# Altium schematic symbol library fpga_xilinx.SchLib: 19 symbols (part 1 of 5)
Pins are listed as number, name and electrical type; pins without a type are passive.

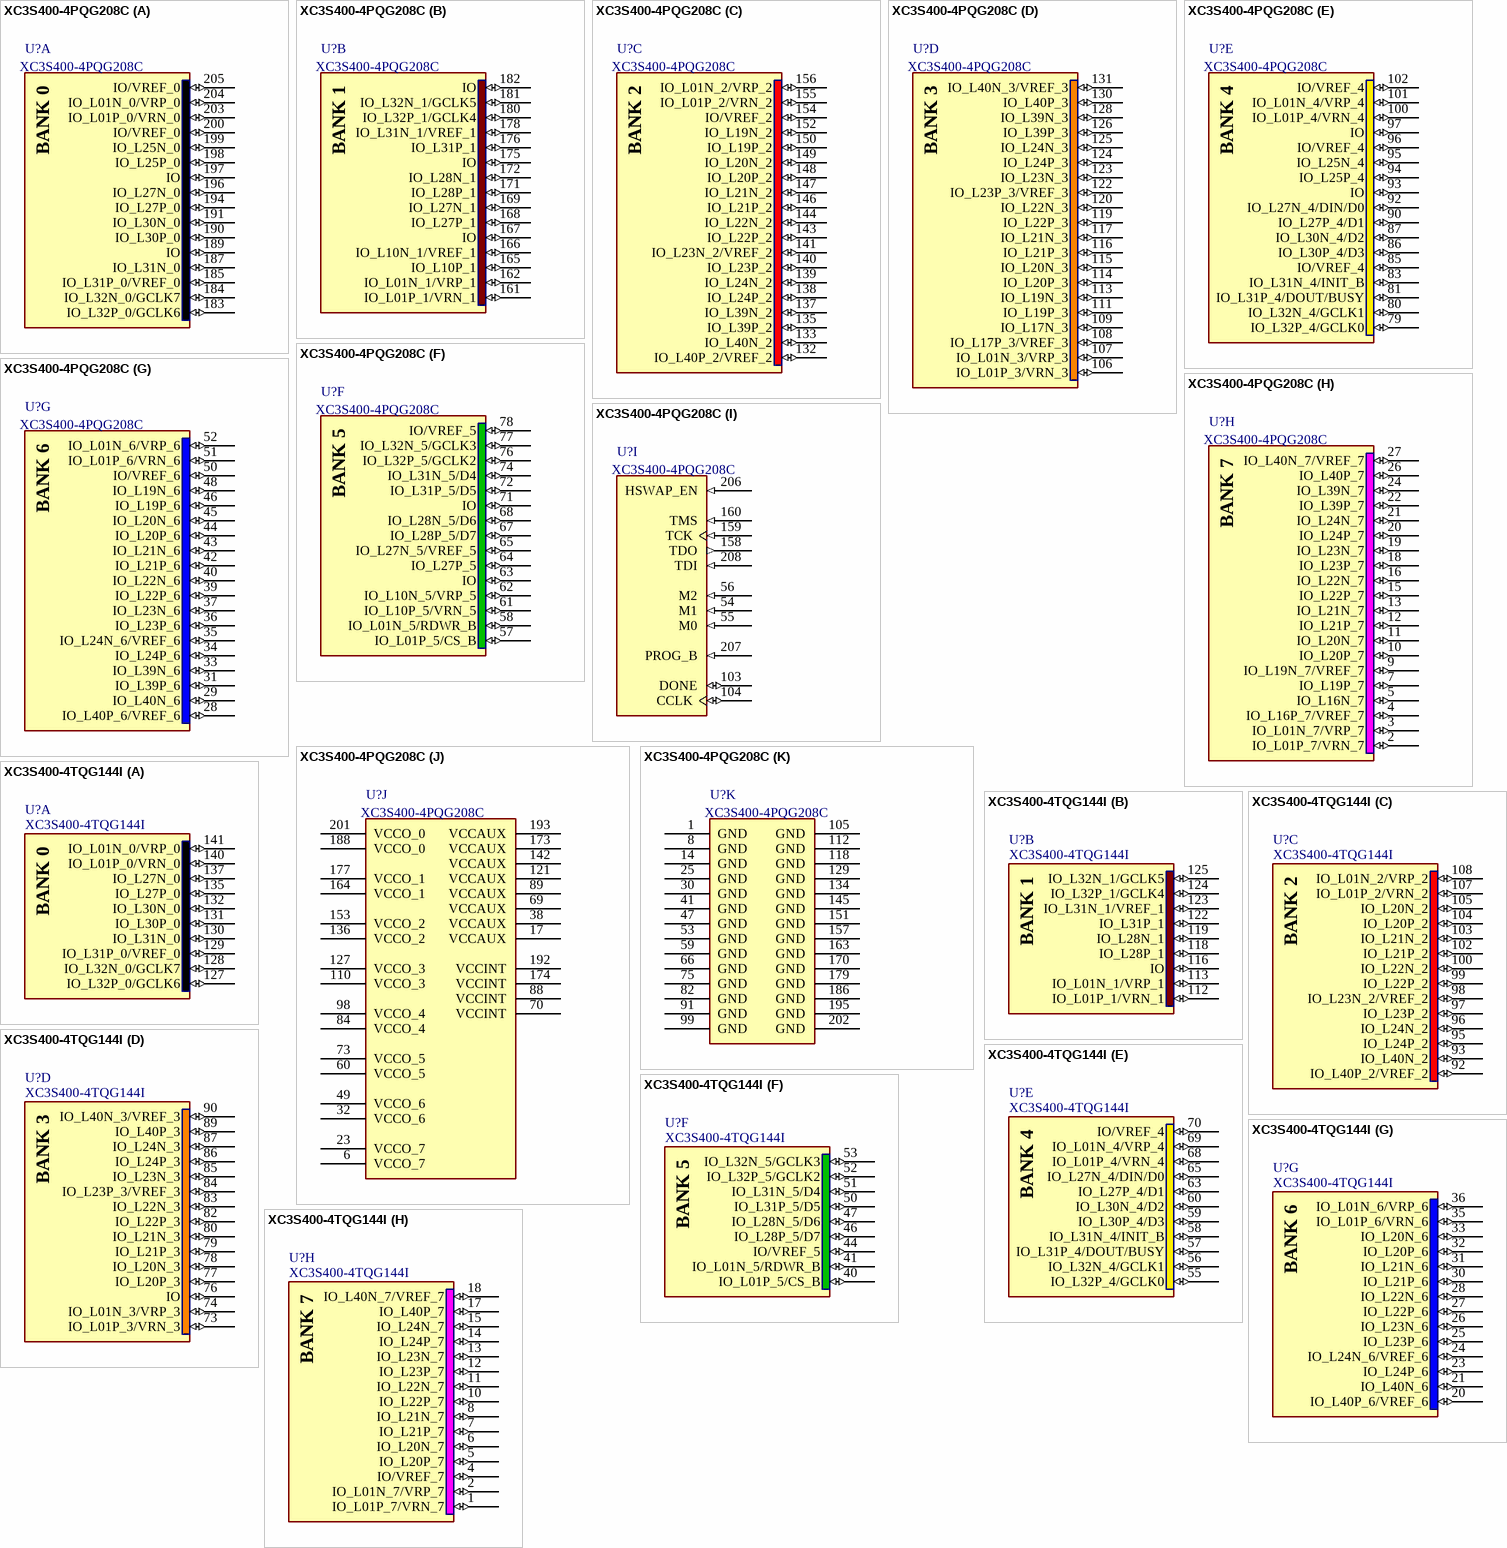
[diagram p0: symbols XC3S400-4PQG208C to XC3S400-4TQG144I]

## XC3S400-4PQG208C
designator U?
Spartan-3 1.2V FPGA, 141 User I/Os, 208-Pin PQFP, Standard Performance, Commercial Grade, Pb-Free; MANF: XILINX; MANF_P#: XC3S400-4PQG208CA; VALUE: XC3S400-4PQG208CA; ASSEMBLY: ASSEMBLY; PACKAGE: PQG208; MountType: SMT
footprint QFG50_208 (LQFP208, pqfp208 (Altera), N208 (Cypress), HQ208/MQ208/PQ208/PQG208 (Xilinx), MS-029FA1(JEDEC), SOT459-1, 28X28mm, Pitch: 0.5mm)
part A pins: 183 IO_L32P_0/GCLK6 (io), 184 IO_L32N_0/GCLK7 (io), 185 IO_L31P_0/VREF_0 (io), 187 IO_L31N_0 (io), 189 IO (io), 190 IO_L30P_0 (io), 191 IO_L30N_0 (io), 194 IO_L27P_0 (io), 196 IO_L27N_0 (io), 197 IO (io), 198 IO_L25P_0 (io), 199 IO_L25N_0 (io), 200 IO/VREF_0 (io), 203 IO_L01P_0/VRN_0 (io), 204 IO_L01N_0/VRP_0 (io), 205 IO/VREF_0 (io)
part B pins: 161 IO_L01P_1/VRN_1 (io), 162 IO_L01N_1/VRP_1 (io), 165 IO_L10P_1 (io), 166 IO_L10N_1/VREF_1 (io), 167 IO (io), 168 IO_L27P_1 (io), 169 IO_L27N_1 (io), 171 IO_L28P_1 (io), 172 IO_L28N_1 (io), 175 IO (io), 176 IO_L31P_1 (io), 178 IO_L31N_1/VREF_1 (io), 180 IO_L32P_1/GCLK4 (io), 181 IO_L32N_1/GCLK5 (io), 182 IO (io)
part C pins: 132 IO_L40P_2/VREF_2 (io), 133 IO_L40N_2 (io), 135 IO_L39P_2 (io), 137 IO_L39N_2 (io), 138 IO_L24P_2 (io), 139 IO_L24N_2 (io), 140 IO_L23P_2 (io), 141 IO_L23N_2/VREF_2 (io), 143 IO_L22P_2 (io), 144 IO_L22N_2 (io), 146 IO_L21P_2 (io), 147 IO_L21N_2 (io), 148 IO_L20P_2 (io), 149 IO_L20N_2 (io), 150 IO_L19P_2 (io), 152 IO_L19N_2 (io), 154 IO/VREF_2 (io), 155 IO_L01P_2/VRN_2 (io), 156 IO_L01N_2/VRP_2 (io)
part D pins: 106 IO_L01P_3/VRN_3 (io), 107 IO_L01N_3/VRP_3 (io), 108 IO_L17P_3/VREF_3 (io), 109 IO_L17N_3 (io), 111 IO_L19P_3 (io), 113 IO_L19N_3 (io), 114 IO_L20P_3 (io), 115 IO_L20N_3 (io), 116 IO_L21P_3 (io), 117 IO_L21N_3 (io), 119 IO_L22P_3 (io), 120 IO_L22N_3 (io), 122 IO_L23P_3/VREF_3 (io), 123 IO_L23N_3 (io), 124 IO_L24P_3 (io), 125 IO_L24N_3 (io), 126 IO_L39P_3 (io), 128 IO_L39N_3 (io), 130 IO_L40P_3 (io), 131 IO_L40N_3/VREF_3 (io)
part E pins: 79 IO_L32P_4/GCLK0 (io), 80 IO_L32N_4/GCLK1 (io), 81 IO_L31P_4/DOUT/BUSY (io), 83 IO_L31N_4/INIT_B (io), 85 IO/VREF_4 (io), 86 IO_L30P_4/D3 (io), 87 IO_L30N_4/D2 (io), 90 IO_L27P_4/D1 (io), 92 IO_L27N_4/DIN/D0 (io), 93 IO (io), 94 IO_L25P_4 (io), 95 IO_L25N_4 (io), 96 IO/VREF_4 (io), 97 IO (io), 100 IO_L01P_4/VRN_4 (io), 101 IO_L01N_4/VRP_4 (io), 102 IO/VREF_4 (io)
part F pins: 57 IO_L01P_5/CS_B (io), 58 IO_L01N_5/RDWR_B (io), 61 IO_L10P_5/VRN_5 (io), 62 IO_L10N_5/VRP_5 (io), 63 IO (io), 64 IO_L27P_5 (io), 65 IO_L27N_5/VREF_5 (io), 67 IO_L28P_5/D7 (io), 68 IO_L28N_5/D6 (io), 71 IO (io), 72 IO_L31P_5/D5 (io), 74 IO_L31N_5/D4 (io), 76 IO_L32P_5/GCLK2 (io), 77 IO_L32N_5/GCLK3 (io), 78 IO/VREF_5 (io)
part G pins: 28 IO_L40P_6/VREF_6 (io), 29 IO_L40N_6 (io), 31 IO_L39P_6 (io), 33 IO_L39N_6 (io), 34 IO_L24P_6 (io), 35 IO_L24N_6/VREF_6 (io), 36 IO_L23P_6 (io), 37 IO_L23N_6 (io), 39 IO_L22P_6 (io), 40 IO_L22N_6 (io), 42 IO_L21P_6 (io), 43 IO_L21N_6 (io), 44 IO_L20P_6 (io), 45 IO_L20N_6 (io), 46 IO_L19P_6 (io), 48 IO_L19N_6 (io), 50 IO/VREF_6 (io), 51 IO_L01P_6/VRN_6 (io), 52 IO_L01N_6/VRP_6 (io)
part H pins: 2 IO_L01P_7/VRN_7 (io), 3 IO_L01N_7/VRP_7 (io), 4 IO_L16P_7/VREF_7 (io), 5 IO_L16N_7 (io), 7 IO_L19P_7 (io), 9 IO_L19N_7/VREF_7 (io), 10 IO_L20P_7 (io), 11 IO_L20N_7 (io), 12 IO_L21P_7 (io), 13 IO_L21N_7 (io), 15 IO_L22P_7 (io), 16 IO_L22N_7 (io), 18 IO_L23P_7 (io), 19 IO_L23N_7 (io), 20 IO_L24P_7 (io), 21 IO_L24N_7 (io), 22 IO_L39P_7 (io), 24 IO_L39N_7 (io), 26 IO_L40P_7 (io), 27 IO_L40N_7/VREF_7 (io)
part I pins: 54 M1 (in), 55 M0 (in), 56 M2 (in), 103 DONE (io), 104 CCLK (io), 158 TDO (out), 159 TCK (in), 160 TMS (in), 206 HSWAP_EN (in), 207 PROG_B (in), 208 TDI (in)
part J pins: 6 VCCO_7 (power), 17 VCCAUX (power), 23 VCCO_7 (power), 32 VCCO_6 (power), 38 VCCAUX (power), 49 VCCO_6 (power), 60 VCCO_5 (power), 69 VCCAUX (power), 70 VCCINT (power), 73 VCCO_5 (power), 84 VCCO_4 (power), 88 VCCINT (power), 89 VCCAUX (power), 98 VCCO_4 (power), 110 VCCO_3 (power), 121 VCCAUX (power), 127 VCCO_3 (power), 136 VCCO_2 (power), 142 VCCAUX (power), 153 VCCO_2 (power), 164 VCCO_1 (power), 173 VCCAUX (power), 174 VCCINT (power), 177 VCCO_1 (power), 188 VCCO_0 (power), 192 VCCINT (power), 193 VCCAUX (power), 201 VCCO_0 (power)
part K pins: 1 GND (power), 8 GND (power), 14 GND (power), 25 GND (power), 30 GND (power), 41 GND (power), 47 GND (power), 53 GND (power), 59 GND (power), 66 GND (power), 75 GND (power), 82 GND (power), 91 GND (power), 99 GND (power), 105 GND (power), 112 GND (power), 118 GND (power), 129 GND (power), 134 GND (power), 145 GND (power), 151 GND (power), 157 GND (power), 163 GND (power), 170 GND (power), 179 GND (power), 186 GND (power), 195 GND (power), 202 GND (power)
part A text: BANK 0
part B text: BANK 1
part C text: BANK 2
part D text: BANK 3
part E text: BANK 4
part F text: BANK 5
part G text: BANK 6
part H text: BANK 7

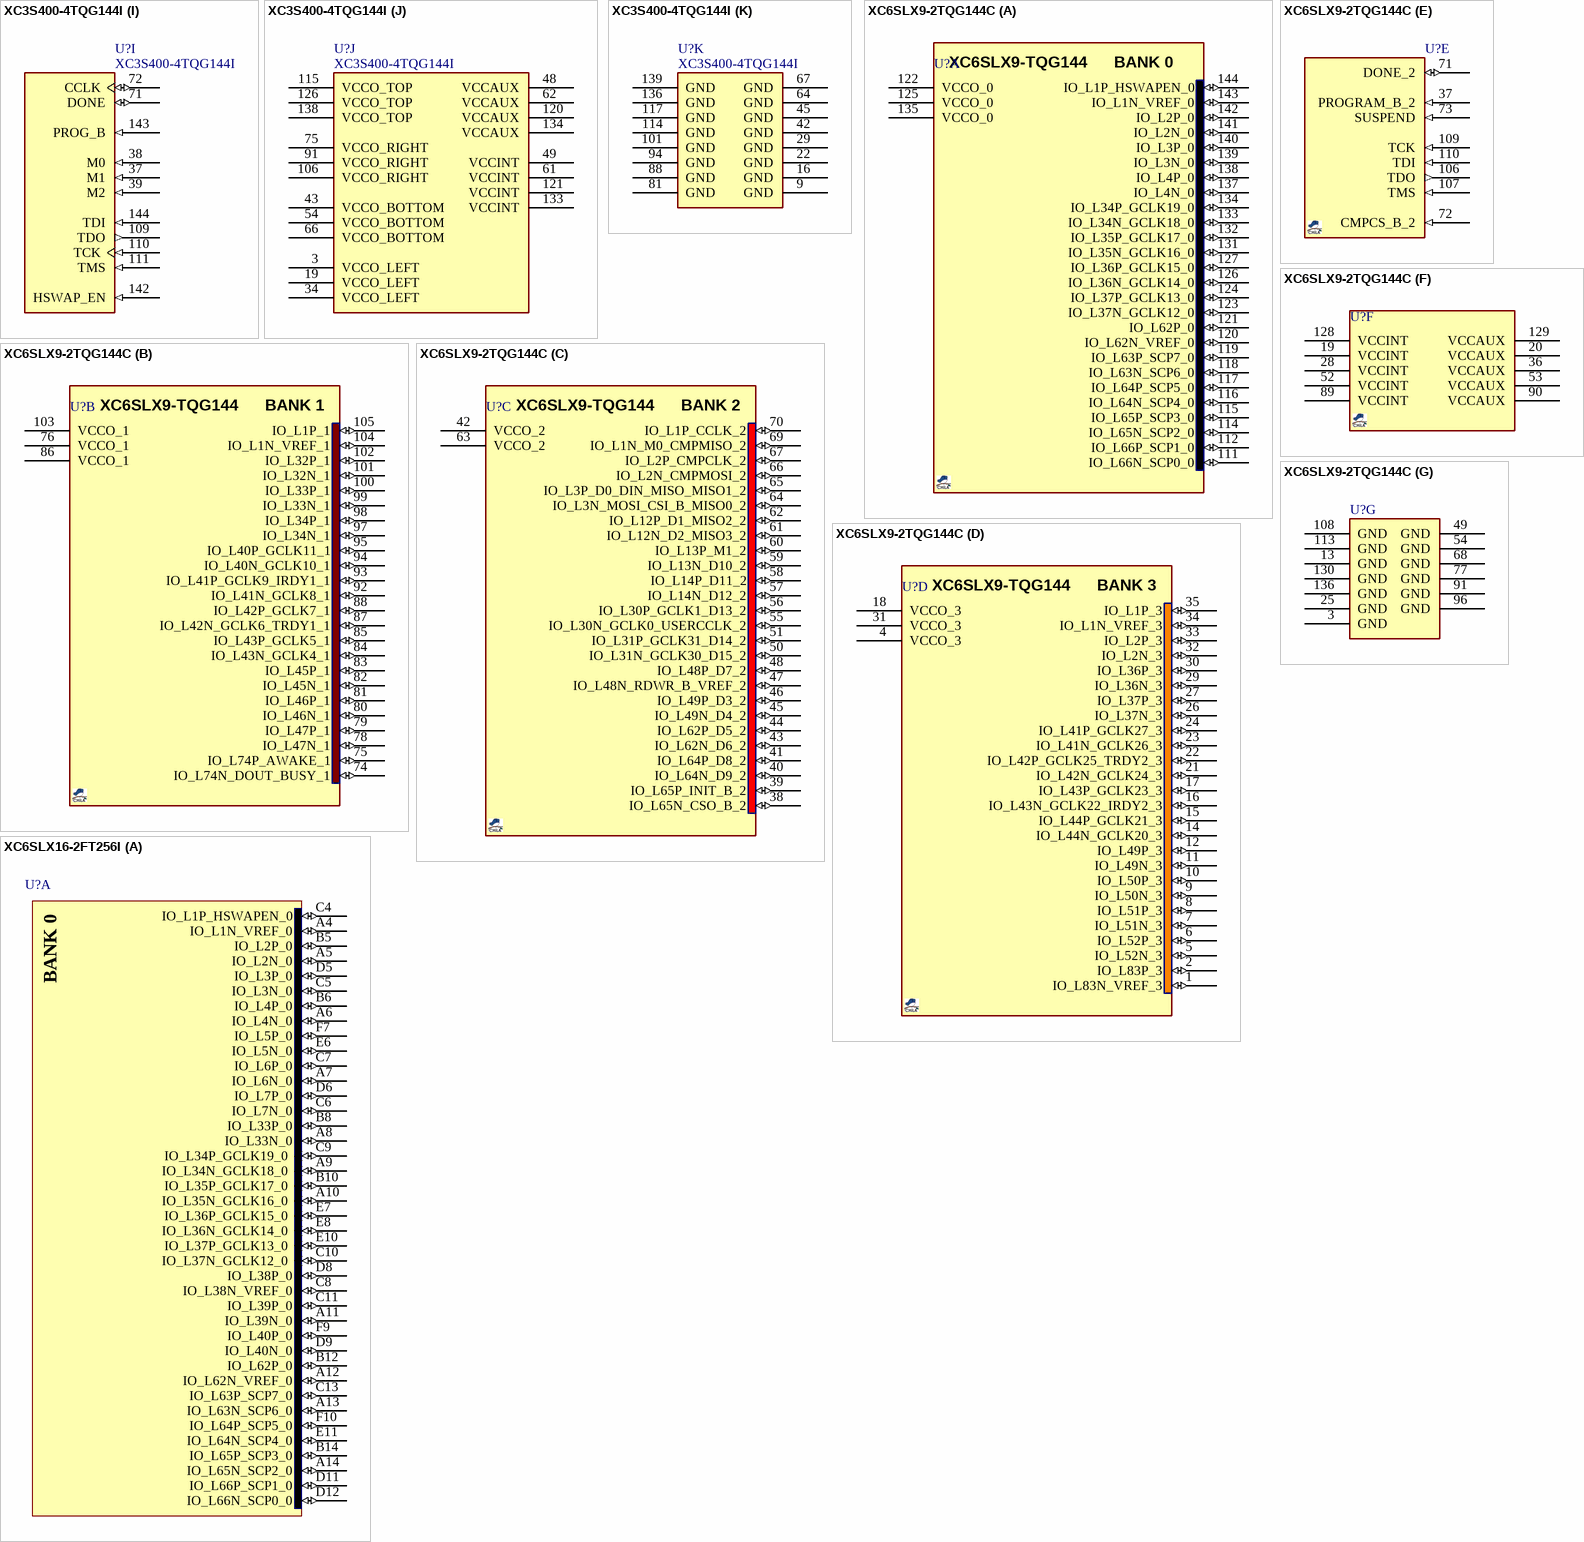
[diagram p1: symbols XC3S400-4TQG144I to XC6SLX16-2FT256I]

## XC3S400-4TQG144I
designator U?
Spartan-3 1.2V FPGA, 97 User I/Os, 144-pin TQFP, Standard Performance, Industrial Grade, Pb-Free; MANF: XILINX; MANF_P#: XC3S400-4TQG144IA; VALUE: XC3S400-4TQG144IA; ASSEMBLY: ASSEMBLY; PACKAGE: TQG144; MountType: SMT
footprint QFG50_144 (LQFP144, TQFP144, A144 (Cypress), HT144/TQ144 TQG144 (Xilinx), MS-026, MO-136(JEDEC), LQFP PGE, 20X20mm, Pitch 0.50mm, HT144, HTG144)
part A pins: 127 IO_L32P_0/GCLK6 (io), 128 IO_L32N_0/GCLK7 (io), 129 IO_L31P_0/VREF_0 (io), 130 IO_L31N_0 (io), 131 IO_L30P_0 (io), 132 IO_L30N_0 (io), 135 IO_L27P_0 (io), 137 IO_L27N_0 (io), 140 IO_L01P_0/VRN_0 (io), 141 IO_L01N_0/VRP_0 (io)
part B pins: 112 IO_L01P_1/VRN_1 (io), 113 IO_L01N_1/VRP_1 (io), 116 IO (io), 118 IO_L28P_1 (io), 119 IO_L28N_1 (io), 122 IO_L31P_1 (io), 123 IO_L31N_1/VREF_1 (io), 124 IO_L32P_1/GCLK4 (io), 125 IO_L32N_1/GCLK5 (io)
part C pins: 92 IO_L40P_2/VREF_2 (io), 93 IO_L40N_2 (io), 95 IO_L24P_2 (io), 96 IO_L24N_2 (io), 97 IO_L23P_2 (io), 98 IO_L23N_2/VREF_2 (io), 99 IO_L22P_2 (io), 100 IO_L22N_2 (io), 102 IO_L21P_2 (io), 103 IO_L21N_2 (io), 104 IO_L20P_2 (io), 105 IO_L20N_2 (io), 107 IO_L01P_2/VRN_2 (io), 108 IO_L01N_2/VRP_2 (io)
part D pins: 73 IO_L01P_3/VRN_3 (io), 74 IO_L01N_3/VRP_3 (io), 76 IO (io), 77 IO_L20P_3 (io), 78 IO_L20N_3 (io), 79 IO_L21P_3 (io), 80 IO_L21N_3 (io), 82 IO_L22P_3 (io), 83 IO_L22N_3 (io), 84 IO_L23P_3/VREF_3 (io), 85 IO_L23N_3 (io), 86 IO_L24P_3 (io), 87 IO_L24N_3 (io), 89 IO_L40P_3 (io), 90 IO_L40N_3/VREF_3 (io)
part E pins: 55 IO_L32P_4/GCLK0 (io), 56 IO_L32N_4/GCLK1 (io), 57 IO_L31P_4/DOUT/BUSY (io), 58 IO_L31N_4/INIT_B (io), 59 IO_L30P_4/D3 (io), 60 IO_L30N_4/D2 (io), 63 IO_L27P_4/D1 (io), 65 IO_L27N_4/DIN/D0 (io), 68 IO_L01P_4/VRN_4 (io), 69 IO_L01N_4/VRP_4 (io), 70 IO/VREF_4 (io)
part F pins: 40 IO_L01P_5/CS_B (io), 41 IO_L01N_5/RDWR_B (io), 44 IO/VREF_5 (io), 46 IO_L28P_5/D7 (io), 47 IO_L28N_5/D6 (io), 50 IO_L31P_5/D5 (io), 51 IO_L31N_5/D4 (io), 52 IO_L32P_5/GCLK2 (io), 53 IO_L32N_5/GCLK3 (io)
part G pins: 20 IO_L40P_6/VREF_6 (io), 21 IO_L40N_6 (io), 23 IO_L24P_6 (io), 24 IO_L24N_6/VREF_6 (io), 25 IO_L23P_6 (io), 26 IO_L23N_6 (io), 27 IO_L22P_6 (io), 28 IO_L22N_6 (io), 30 IO_L21P_6 (io), 31 IO_L21N_6 (io), 32 IO_L20P_6 (io), 33 IO_L20N_6 (io), 35 IO_L01P_6/VRN_6 (io), 36 IO_L01N_6/VRP_6 (io)
part H pins: 1 IO_L01P_7/VRN_7 (io), 2 IO_L01N_7/VRP_7 (io), 4 IO/VREF_7 (io), 5 IO_L20P_7 (io), 6 IO_L20N_7 (io), 7 IO_L21P_7 (io), 8 IO_L21N_7 (io), 10 IO_L22P_7 (io), 11 IO_L22N_7 (io), 12 IO_L23P_7 (io), 13 IO_L23N_7 (io), 14 IO_L24P_7 (io), 15 IO_L24N_7 (io), 17 IO_L40P_7 (io), 18 IO_L40N_7/VREF_7 (io)
part I pins: 37 M1 (in), 38 M0 (in), 39 M2 (in), 71 DONE (io), 72 CCLK (io), 109 TDO (out), 110 TCK (in), 111 TMS (in), 142 HSWAP_EN (in), 143 PROG_B (in), 144 TDI (in)
part J pins: 3 VCCO_LEFT (power), 19 VCCO_LEFT (power), 34 VCCO_LEFT (power), 43 VCCO_BOTTOM (power), 48 VCCAUX (power), 49 VCCINT (power), 54 VCCO_BOTTOM (power), 61 VCCINT (power), 62 VCCAUX (power), 66 VCCO_BOTTOM (power), 75 VCCO_RIGHT (power), 91 VCCO_RIGHT (power), 106 VCCO_RIGHT (power), 115 VCCO_TOP (power), 120 VCCAUX (power), 121 VCCINT (power), 126 VCCO_TOP (power), 133 VCCINT (power), 134 VCCAUX (power), 138 VCCO_TOP (power)
part K pins: 9 GND (power), 16 GND (power), 22 GND (power), 29 GND (power), 42 GND (power), 45 GND (power), 64 GND (power), 67 GND (power), 81 GND (power), 88 GND (power), 94 GND (power), 101 GND (power), 114 GND (power), 117 GND (power), 136 GND (power), 139 GND (power)
part A text: BANK 0
part B text: BANK 1
part C text: BANK 2
part D text: BANK 3
part E text: BANK 4
part F text: BANK 5
part G text: BANK 6
part H text: BANK 7

## XC6SLX9-2TQG144C
designator U?, comment XC6SLX9-2TQG144CA  (value not drawn)
Spartan-6 LX 1.2V FPGA, 102 User I/Os, 144-Pin TQFP (0.5mm Pitch), Speed Grade 2, Commercial Grade, Pb-Free; MANF: XILINX; ASSEMBLY: ASSEMBLY; MANF_P#: XC6SLX9-2TQG144CA; VALUE: XC6SLX9-2TQG144CA; PACKAGE: TQG144; MountType: SMT
signal-integrity model XC6SLX9_TQG144 (Spartan-6)
footprint QFG50_144 (LQFP144, TQFP144, A144 (Cypress), HT144/TQ144 TQG144 (Xilinx), MS-026, MO-136(JEDEC), LQFP PGE, 20X20mm, Pitch 0.50mm, HT144, HTG144)
part A pins: 111 IO_L66N_SCP0_0 (io), 112 IO_L66P_SCP1_0 (io), 114 IO_L65N_SCP2_0 (io), 115 IO_L65P_SCP3_0 (io), 116 IO_L64N_SCP4_0 (io), 117 IO_L64P_SCP5_0 (io), 118 IO_L63N_SCP6_0 (io), 119 IO_L63P_SCP7_0 (io), 120 IO_L62N_VREF_0 (io), 121 IO_L62P_0 (io), 122 VCCO_0 (power), 123 IO_L37N_GCLK12_0 (io), 124 IO_L37P_GCLK13_0 (io), 125 VCCO_0 (power), 126 IO_L36N_GCLK14_0 (io), 127 IO_L36P_GCLK15_0 (io), 131 IO_L35N_GCLK16_0 (io), 132 IO_L35P_GCLK17_0 (io), 133 IO_L34N_GCLK18_0 (io), 134 IO_L34P_GCLK19_0 (io), 135 VCCO_0 (power), 137 IO_L4N_0 (io), 138 IO_L4P_0 (io), 139 IO_L3N_0 (io), 140 IO_L3P_0 (io), 141 IO_L2N_0 (io), 142 IO_L2P_0 (io), 143 IO_L1N_VREF_0 (io), 144 IO_L1P_HSWAPEN_0 (io)
part B pins: 74 IO_L74N_DOUT_BUSY_1 (io), 75 IO_L74P_AWAKE_1 (io), 76 VCCO_1 (power), 78 IO_L47N_1 (io), 79 IO_L47P_1 (io), 80 IO_L46N_1 (io), 81 IO_L46P_1 (io), 82 IO_L45N_1 (io), 83 IO_L45P_1 (io), 84 IO_L43N_GCLK4_1 (io), 85 IO_L43P_GCLK5_1 (io), 86 VCCO_1 (power), 87 IO_L42N_GCLK6_TRDY1_1 (io), 88 IO_L42P_GCLK7_1 (io), 92 IO_L41N_GCLK8_1 (io), 93 IO_L41P_GCLK9_IRDY1_1 (io), 94 IO_L40N_GCLK10_1 (io), 95 IO_L40P_GCLK11_1 (io), 97 IO_L34N_1 (io), 98 IO_L34P_1 (io), 99 IO_L33N_1 (io), 100 IO_L33P_1 (io), 101 IO_L32N_1 (io), 102 IO_L32P_1 (io), 103 VCCO_1 (power), 104 IO_L1N_VREF_1 (io), 105 IO_L1P_1 (io)
part C pins: 38 IO_L65N_CSO_B_2 (io), 39 IO_L65P_INIT_B_2 (io), 40 IO_L64N_D9_2 (io), 41 IO_L64P_D8_2 (io), 42 VCCO_2 (power), 43 IO_L62N_D6_2 (io), 44 IO_L62P_D5_2 (io), 45 IO_L49N_D4_2 (io), 46 IO_L49P_D3_2 (io), 47 IO_L48N_RDWR_B_VREF_2 (io), 48 IO_L48P_D7_2 (io), 50 IO_L31N_GCLK30_D15_2 (io), 51 IO_L31P_GCLK31_D14_2 (io), 55 IO_L30N_GCLK0_USERCCLK_2 (io), 56 IO_L30P_GCLK1_D13_2 (io), 57 IO_L14N_D12_2 (io), 58 IO_L14P_D11_2 (io), 59 IO_L13N_D10_2 (io), 60 IO_L13P_M1_2 (io), 61 IO_L12N_D2_MISO3_2 (io), 62 IO_L12P_D1_MISO2_2 (io), 63 VCCO_2 (power), 64 IO_L3N_MOSI_CSI_B_MISO0_2 (io), 65 IO_L3P_D0_DIN_MISO_MISO1_2 (io), 66 IO_L2N_CMPMOSI_2 (io), 67 IO_L2P_CMPCLK_2 (io), 69 IO_L1N_M0_CMPMISO_2 (io), 70 IO_L1P_CCLK_2 (io)
part D pins: 1 IO_L83N_VREF_3 (io), 2 IO_L83P_3 (io), 4 VCCO_3 (power), 5 IO_L52N_3 (io), 6 IO_L52P_3 (io), 7 IO_L51N_3 (io), 8 IO_L51P_3 (io), 9 IO_L50N_3 (io), 10 IO_L50P_3 (io), 11 IO_L49N_3 (io), 12 IO_L49P_3 (io), 14 IO_L44N_GCLK20_3 (io), 15 IO_L44P_GCLK21_3 (io), 16 IO_L43N_GCLK22_IRDY2_3 (io), 17 IO_L43P_GCLK23_3 (io), 18 VCCO_3 (power), 21 IO_L42N_GCLK24_3 (io), 22 IO_L42P_GCLK25_TRDY2_3 (io), 23 IO_L41N_GCLK26_3 (io), 24 IO_L41P_GCLK27_3 (io), 26 IO_L37N_3 (io), 27 IO_L37P_3 (io), 29 IO_L36N_3 (io), 30 IO_L36P_3 (io), 31 VCCO_3 (power), 32 IO_L2N_3 (io), 33 IO_L2P_3 (io), 34 IO_L1N_VREF_3 (io), 35 IO_L1P_3 (io)
part E pins: 37 PROGRAM_B_2 (in), 71 DONE_2 (io), 72 CMPCS_B_2 (in), 73 SUSPEND (in), 106 TDO (out), 107 TMS (in), 109 TCK (in), 110 TDI (in)
part F pins: 19 VCCINT (power), 20 VCCAUX (power), 28 VCCINT (power), 36 VCCAUX (power), 52 VCCINT (power), 53 VCCAUX (power), 89 VCCINT (power), 90 VCCAUX (power), 128 VCCINT (power), 129 VCCAUX (power)
part G pins: 3 GND (power), 13 GND (power), 25 GND (power), 49 GND (power), 54 GND (power), 68 GND (power), 77 GND (power), 91 GND (power), 96 GND (power), 108 GND (power), 113 GND (power), 130 GND (power), 136 GND (power)
part A text: XC6SLX9-TQG144; BANK 0
part B text: XC6SLX9-TQG144; BANK 1
part C text: XC6SLX9-TQG144; BANK 2
part D text: XC6SLX9-TQG144; BANK 3

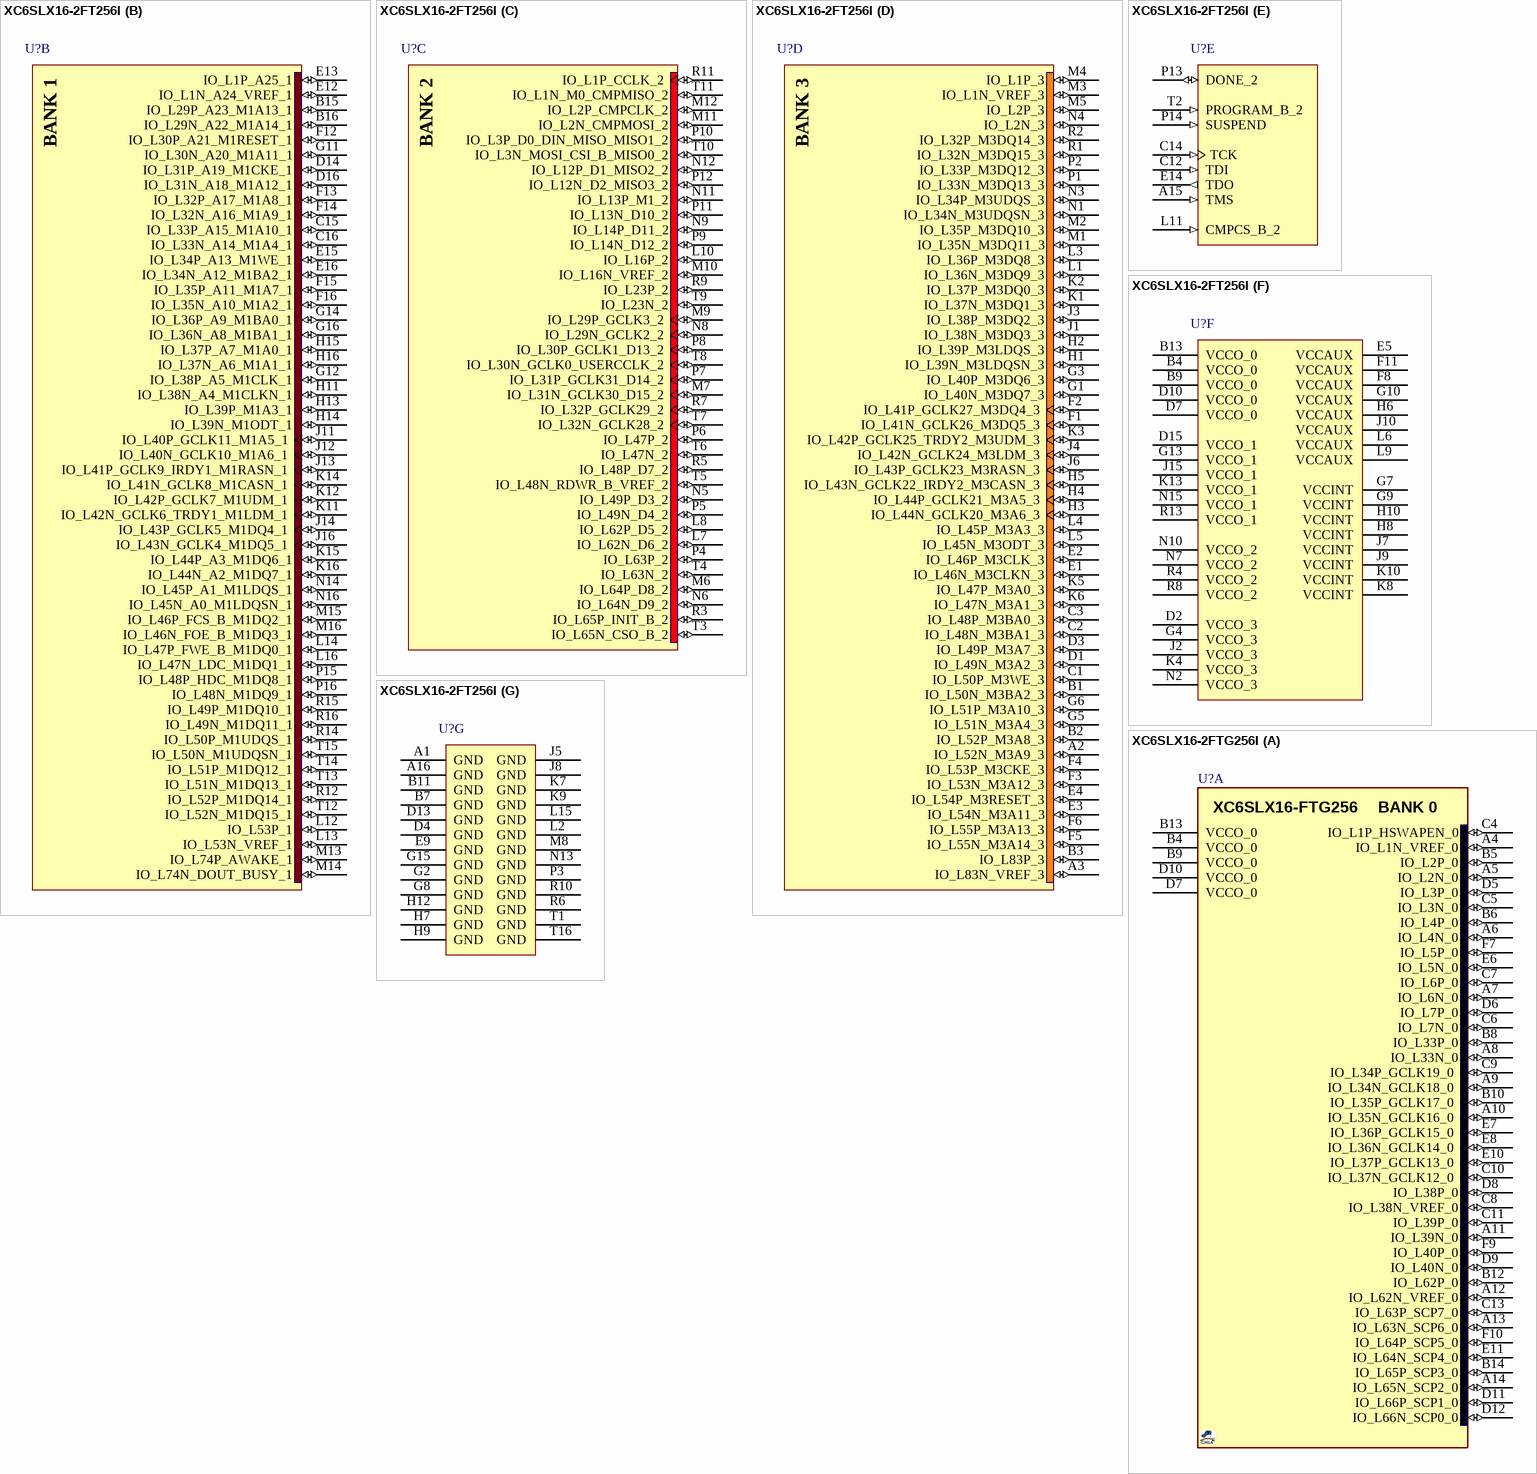
[diagram p2: symbols XC6SLX16-2FT256I to XC6SLX16-2FTG256I]

## XC6SLX16-2FT256I
designator U?
Spartan-6 LX 1.2V FPGA, 186 User I/Os, 256-Ball Fine-Pitch Thin BGA (1.0mm Pitch), Speed Grade 2, Industrial Grade; MANF: Xilinx; MANF_P#: XC6SLX16-2FT256IA; VALUE: XC6SLX16-2FT256IA; ASSEMBLY: ASSEMBLY; PACKAGE: FTG256; MountType: SMT
footprint FT256 (BGA, 256-Leads, Body 17x17mm, Pitch 1mm)
part A pins: A4 IO_L1N_VREF_0 (io), A5 IO_L2N_0 (io), A6 IO_L4N_0 (io), A7 IO_L6N_0 (io), A8 IO_L33N_0 (io), A9 IO_L34N_GCLK18_0 (io), A10 IO_L35N_GCLK16_0 (io), A11 IO_L39N_0 (io), A12 IO_L62N_VREF_0 (io), A13 IO_L63N_SCP6_0 (io), A14 IO_L65N_SCP2_0 (io), B5 IO_L2P_0 (io), B6 IO_L4P_0 (io), B8 IO_L33P_0 (io), B10 IO_L35P_GCLK17_0 (io), B12 IO_L62P_0 (io), B14 IO_L65P_SCP3_0 (io), C4 IO_L1P_HSWAPEN_0 (io), C5 IO_L3N_0 (io), C6 IO_L7N_0 (io), C7 IO_L6P_0 (io), C8 IO_L38N_VREF_0 (io), C9 IO_L34P_GCLK19_0 (io), C10 IO_L37N_GCLK12_0 (io), C11 IO_L39P_0 (io), C13 IO_L63P_SCP7_0 (io), D5 IO_L3P_0 (io), D6 IO_L7P_0 (io), D8 IO_L38P_0 (io), D9 IO_L40N_0 (io), D11 IO_L66P_SCP1_0 (io), D12 IO_L66N_SCP0_0 (io), E6 IO_L5N_0 (io), E7 IO_L36P_GCLK15_0 (io), E8 IO_L36N_GCLK14_0 (io), E10 IO_L37P_GCLK13_0 (io), E11 IO_L64N_SCP4_0 (io), F7 IO_L5P_0 (io), F9 IO_L40P_0 (io), F10 IO_L64P_SCP5_0 (io)
part B pins: B15 IO_L29P_A23_M1A13_1 (io), B16 IO_L29N_A22_M1A14_1 (io), C15 IO_L33P_A15_M1A10_1 (io), C16 IO_L33N_A14_M1A4_1 (io), D14 IO_L31P_A19_M1CKE_1 (io), D16 IO_L31N_A18_M1A12_1 (io), E12 IO_L1N_A24_VREF_1 (io), E13 IO_L1P_A25_1 (io), E15 IO_L34P_A13_M1WE_1 (io), E16 IO_L34N_A12_M1BA2_1 (io), F12 IO_L30P_A21_M1RESET_1 (io), F13 IO_L32P_A17_M1A8_1 (io), F14 IO_L32N_A16_M1A9_1 (io), F15 IO_L35P_A11_M1A7_1 (io), F16 IO_L35N_A10_M1A2_1 (io), G11 IO_L30N_A20_M1A11_1 (io), G12 IO_L38P_A5_M1CLK_1 (io), G14 IO_L36P_A9_M1BA0_1 (io), G16 IO_L36N_A8_M1BA1_1 (io), H11 IO_L38N_A4_M1CLKN_1 (io), H13 IO_L39P_M1A3_1 (io), H14 IO_L39N_M1ODT_1 (io), H15 IO_L37P_A7_M1A0_1 (io), H16 IO_L37N_A6_M1A1_1 (io), J11 IO_L40P_GCLK11_M1A5_1 (io), J12 IO_L40N_GCLK10_M1A6_1 (io), J13 IO_L41P_GCLK9_IRDY1_M1RASN_1 (io), J14 IO_L43P_GCLK5_M1DQ4_1 (io), J16 IO_L43N_GCLK4_M1DQ5_1 (io), K11 IO_L42N_GCLK6_TRDY1_M1LDM_1 (io), K12 IO_L42P_GCLK7_M1UDM_1 (io), K14 IO_L41N_GCLK8_M1CASN_1 (io), K15 IO_L44P_A3_M1DQ6_1 (io), K16 IO_L44N_A2_M1DQ7_1 (io), L12 IO_L53P_1 (io), L13 IO_L53N_VREF_1 (io), L14 IO_L47P_FWE_B_M1DQ0_1 (io), L16 IO_L47N_LDC_M1DQ1_1 (io), M13 IO_L74P_AWAKE_1 (io), M14 IO_L74N_DOUT_BUSY_1 (io), M15 IO_L46P_FCS_B_M1DQ2_1 (io), M16 IO_L46N_FOE_B_M1DQ3_1 (io), N14 IO_L45P_A1_M1LDQS_1 (io), N16 IO_L45N_A0_M1LDQSN_1 (io), P15 IO_L48P_HDC_M1DQ8_1 (io), P16 IO_L48N_M1DQ9_1 (io), R12 IO_L52P_M1DQ14_1 (io), R14 IO_L50P_M1UDQS_1 (io), R15 IO_L49P_M1DQ10_1 (io), R16 IO_L49N_M1DQ11_1 (io), T12 IO_L52N_M1DQ15_1 (io), T13 IO_L51N_M1DQ13_1 (io), T14 IO_L51P_M1DQ12_1 (io), T15 IO_L50N_M1UDQSN_1 (io)
part C pins: L7 IO_L62N_D6_2 (io), L8 IO_L62P_D5_2 (io), L10 IO_L16P_2 (io), M6 IO_L64P_D8_2 (io), M7 IO_L31N_GCLK30_D15_2 (io), M9 IO_L29P_GCLK3_2 (io), M10 IO_L16N_VREF_2 (io), M11 IO_L2N_CMPMOSI_2 (io), M12 IO_L2P_CMPCLK_2 (io), N5 IO_L49P_D3_2 (io), N6 IO_L64N_D9_2 (io), N8 IO_L29N_GCLK2_2 (io), N9 IO_L14P_D11_2 (io), N11 IO_L13P_M1_2 (io), N12 IO_L12P_D1_MISO2_2 (io), P4 IO_L63P_2 (io), P5 IO_L49N_D4_2 (io), P6 IO_L47P_2 (io), P7 IO_L31P_GCLK31_D14_2 (io), P8 IO_L30P_GCLK1_D13_2 (io), P9 IO_L14N_D12_2 (io), P10 IO_L3P_D0_DIN_MISO_MISO1_2 (io), P11 IO_L13N_D10_2 (io), P12 IO_L12N_D2_MISO3_2 (io), R3 IO_L65P_INIT_B_2 (io), R5 IO_L48P_D7_2 (io), R7 IO_L32P_GCLK29_2 (io), R9 IO_L23P_2 (io), R11 IO_L1P_CCLK_2 (io), T3 IO_L65N_CSO_B_2 (io), T4 IO_L63N_2 (io), T5 IO_L48N_RDWR_B_VREF_2 (io), T6 IO_L47N_2 (io), T7 IO_L32N_GCLK28_2 (io), T8 IO_L30N_GCLK0_USERCCLK_2 (io), T9 IO_L23N_2 (io), T10 IO_L3N_MOSI_CSI_B_MISO0_2 (io), T11 IO_L1N_M0_CMPMISO_2 (io)
part D pins: A2 IO_L52N_M3A9_3 (io), A3 IO_L83N_VREF_3 (io), B1 IO_L50N_M3BA2_3 (io), B2 IO_L52P_M3A8_3 (io), B3 IO_L83P_3 (io), C1 IO_L50P_M3WE_3 (io), C2 IO_L48N_M3BA1_3 (io), C3 IO_L48P_M3BA0_3 (io), D1 IO_L49N_M3A2_3 (io), D3 IO_L49P_M3A7_3 (io), E1 IO_L46N_M3CLKN_3 (io), E2 IO_L46P_M3CLK_3 (io), E3 IO_L54N_M3A11_3 (io), E4 IO_L54P_M3RESET_3 (io), F1 IO_L41N_GCLK26_M3DQ5_3 (io), F2 IO_L41P_GCLK27_M3DQ4_3 (io), F3 IO_L53N_M3A12_3 (io), F4 IO_L53P_M3CKE_3 (io), F5 IO_L55N_M3A14_3 (io), F6 IO_L55P_M3A13_3 (io), G1 IO_L40N_M3DQ7_3 (io), G3 IO_L40P_M3DQ6_3 (io), G5 IO_L51N_M3A4_3 (io), G6 IO_L51P_M3A10_3 (io), H1 IO_L39N_M3LDQSN_3 (io), H2 IO_L39P_M3LDQS_3 (io), H3 IO_L44N_GCLK20_M3A6_3 (io), H4 IO_L44P_GCLK21_M3A5_3 (io), H5 IO_L43N_GCLK22_IRDY2_M3CASN_3 (io), J1 IO_L38N_M3DQ3_3 (io), J3 IO_L38P_M3DQ2_3 (io), J4 IO_L42N_GCLK24_M3LDM_3 (io), J6 IO_L43P_GCLK23_M3RASN_3 (io), K1 IO_L37N_M3DQ1_3 (io), K2 IO_L37P_M3DQ0_3 (io), K3 IO_L42P_GCLK25_TRDY2_M3UDM_3 (io), K5 IO_L47P_M3A0_3 (io), K6 IO_L47N_M3A1_3 (io), L1 IO_L36N_M3DQ9_3 (io), L3 IO_L36P_M3DQ8_3 (io), L4 IO_L45P_M3A3_3 (io), L5 IO_L45N_M3ODT_3 (io), M1 IO_L35N_M3DQ11_3 (io), M2 IO_L35P_M3DQ10_3 (io), M3 IO_L1N_VREF_3 (io), M4 IO_L1P_3 (io), M5 IO_L2P_3 (io), N1 IO_L34N_M3UDQSN_3 (io), N3 IO_L34P_M3UDQS_3 (io), N4 IO_L2N_3 (io), P1 IO_L33N_M3DQ13_3 (io), P2 IO_L33P_M3DQ12_3 (io), R1 IO_L32N_M3DQ15_3 (io), R2 IO_L32P_M3DQ14_3 (io)
part E pins: A15 TMS (in), C12 TDI (in), C14 TCK (in), E14 TDO (out), L11 CMPCS_B_2 (in), P13 DONE_2 (io), P14 SUSPEND (in), T2 PROGRAM_B_2 (in)
part F pins: B4 VCCO_0 (power), B9 VCCO_0 (power), B13 VCCO_0 (power), D2 VCCO_3 (power), D7 VCCO_0 (power), D10 VCCO_0 (power), D15 VCCO_1 (power), E5 VCCAUX (power), F8 VCCAUX (power), F11 VCCAUX (power), G4 VCCO_3 (power), G7 VCCINT (power), G9 VCCINT (power), G10 VCCAUX (power), G13 VCCO_1 (power), H6 VCCAUX (power), H8 VCCINT (power), H10 VCCINT (power), J2 VCCO_3 (power), J7 VCCINT (power), J9 VCCINT (power), J10 VCCAUX (power), J15 VCCO_1 (power), K4 VCCO_3 (power), K8 VCCINT (power), K10 VCCINT (power), K13 VCCO_1 (power), L6 VCCAUX (power), L9 VCCAUX (power), N2 VCCO_3 (power), N7 VCCO_2 (power), N10 VCCO_2 (power), N15 VCCO_1 (power), R4 VCCO_2 (power), R8 VCCO_2 (power), R13 VCCO_1 (power)
part G pins: A1 GND (power), A16 GND (power), B7 GND (power), B11 GND (power), D4 GND (power), D13 GND (power), E9 GND (power), G2 GND (power), G8 GND (power), G15 GND (power), H7 GND (power), H9 GND (power), H12 GND (power), J5 GND (power), J8 GND (power), K7 GND (power), K9 GND (power), L2 GND (power), L15 GND (power), M8 GND (power), N13 GND (power), P3 GND (power), R6 GND (power), R10 GND (power), T1 GND (power), T16 GND (power)
part A text: BANK 0
part B text: BANK 1
part C text: BANK 2
part D text: BANK 3

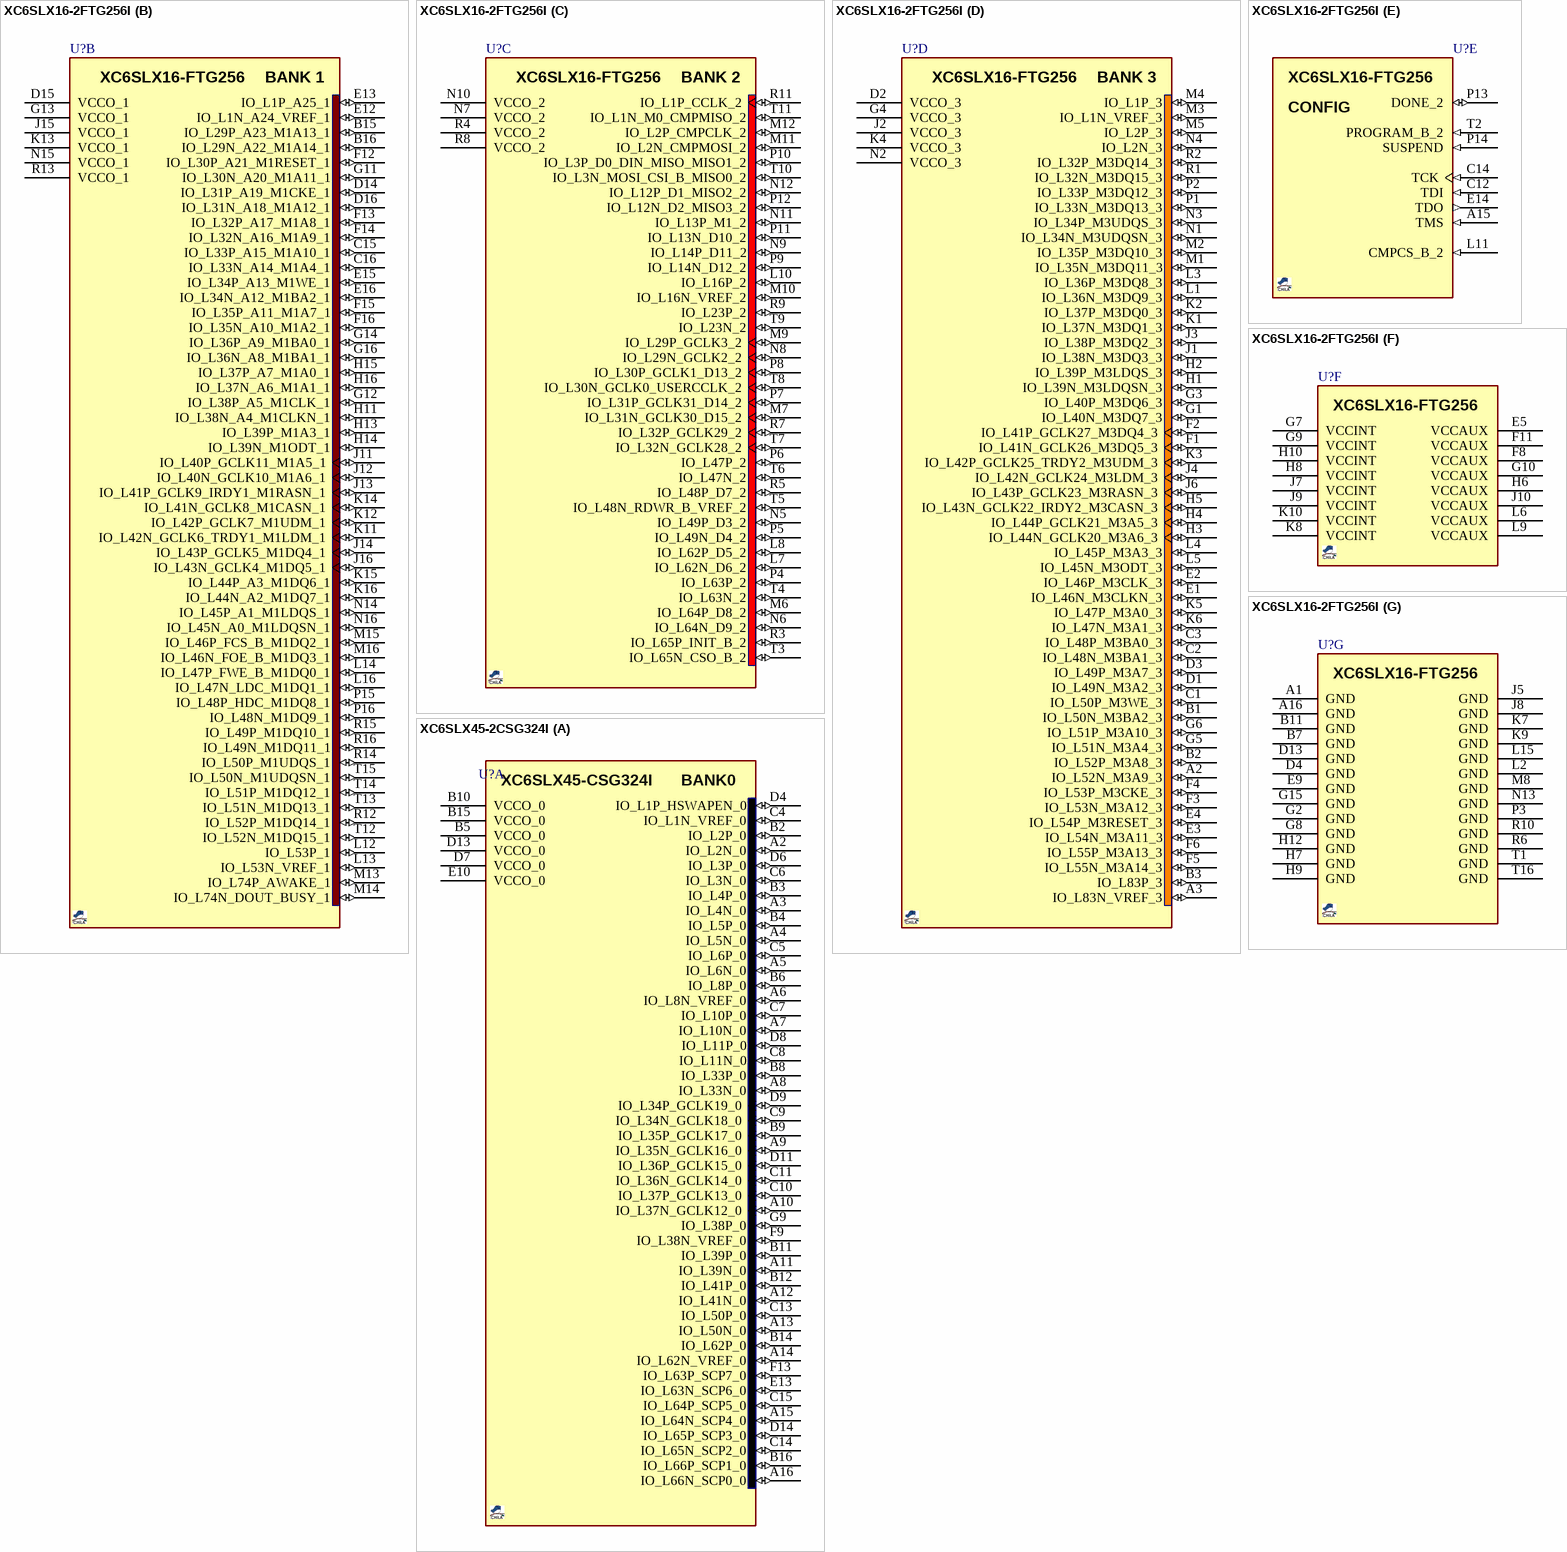
[diagram p3: symbols XC6SLX16-2FTG256I to XC6SLX45-2CSG324I]

## XC6SLX16-2FTG256I
designator U?, comment XC6SLX16-FTG256  (value not drawn)
Spartan-6 LX 1.2V FPGA, 186 User I/Os, 256-Ball Fine-Pitch Thin BGA (1.0mm Pitch), Speed Grade 2, Industrial Grade; MANF: XILINX; MANF_P#: XC6SLX16-2FTG256I; ASSEMBLY: ASSEMBLY; VALUE: XC6SLX16-FTG256; PACKAGE: FTG256; MountType: SMT
footprint BGA100_256_S17 (LBGA256, Body 17x17mm, Pitch 1.00mm)
part A pins: A4 IO_L1N_VREF_0 (io), A5 IO_L2N_0 (io), A6 IO_L4N_0 (io), A7 IO_L6N_0 (io), A8 IO_L33N_0 (io), A9 IO_L34N_GCLK18_0 (io), A10 IO_L35N_GCLK16_0 (io), A11 IO_L39N_0 (io), A12 IO_L62N_VREF_0 (io), A13 IO_L63N_SCP6_0 (io), A14 IO_L65N_SCP2_0 (io), B4 VCCO_0 (power), B5 IO_L2P_0 (io), B6 IO_L4P_0 (io), B8 IO_L33P_0 (io), B9 VCCO_0 (power), B10 IO_L35P_GCLK17_0 (io), B12 IO_L62P_0 (io), B13 VCCO_0 (power), B14 IO_L65P_SCP3_0 (io), C4 IO_L1P_HSWAPEN_0 (io), C5 IO_L3N_0 (io), C6 IO_L7N_0 (io), C7 IO_L6P_0 (io), C8 IO_L38N_VREF_0 (io), C9 IO_L34P_GCLK19_0 (io), C10 IO_L37N_GCLK12_0 (io), C11 IO_L39P_0 (io), C13 IO_L63P_SCP7_0 (io), D5 IO_L3P_0 (io), D6 IO_L7P_0 (io), D7 VCCO_0 (power), D8 IO_L38P_0 (io), D9 IO_L40N_0 (io), D10 VCCO_0 (power), D11 IO_L66P_SCP1_0 (io), D12 IO_L66N_SCP0_0 (io), E6 IO_L5N_0 (io), E7 IO_L36P_GCLK15_0 (io), E8 IO_L36N_GCLK14_0 (io), E10 IO_L37P_GCLK13_0 (io), E11 IO_L64N_SCP4_0 (io), F7 IO_L5P_0 (io), F9 IO_L40P_0 (io), F10 IO_L64P_SCP5_0 (io)
part B pins: B15 IO_L29P_A23_M1A13_1 (io), B16 IO_L29N_A22_M1A14_1 (io), C15 IO_L33P_A15_M1A10_1 (io), C16 IO_L33N_A14_M1A4_1 (io), D14 IO_L31P_A19_M1CKE_1 (io), D15 VCCO_1 (power), D16 IO_L31N_A18_M1A12_1 (io), E12 IO_L1N_A24_VREF_1 (io), E13 IO_L1P_A25_1 (io), E15 IO_L34P_A13_M1WE_1 (io), E16 IO_L34N_A12_M1BA2_1 (io), F12 IO_L30P_A21_M1RESET_1 (io), F13 IO_L32P_A17_M1A8_1 (io), F14 IO_L32N_A16_M1A9_1 (io), F15 IO_L35P_A11_M1A7_1 (io), F16 IO_L35N_A10_M1A2_1 (io), G11 IO_L30N_A20_M1A11_1 (io), G12 IO_L38P_A5_M1CLK_1 (io), G13 VCCO_1 (power), G14 IO_L36P_A9_M1BA0_1 (io), G16 IO_L36N_A8_M1BA1_1 (io), H11 IO_L38N_A4_M1CLKN_1 (io), H13 IO_L39P_M1A3_1 (io), H14 IO_L39N_M1ODT_1 (io), H15 IO_L37P_A7_M1A0_1 (io), H16 IO_L37N_A6_M1A1_1 (io), J11 IO_L40P_GCLK11_M1A5_1 (io), J12 IO_L40N_GCLK10_M1A6_1 (io), J13 IO_L41P_GCLK9_IRDY1_M1RASN_1 (io), J14 IO_L43P_GCLK5_M1DQ4_1 (io), J15 VCCO_1 (power), J16 IO_L43N_GCLK4_M1DQ5_1 (io), K11 IO_L42N_GCLK6_TRDY1_M1LDM_1 (io), K12 IO_L42P_GCLK7_M1UDM_1 (io), K13 VCCO_1 (power), K14 IO_L41N_GCLK8_M1CASN_1 (io), K15 IO_L44P_A3_M1DQ6_1 (io), K16 IO_L44N_A2_M1DQ7_1 (io), L12 IO_L53P_1 (io), L13 IO_L53N_VREF_1 (io), L14 IO_L47P_FWE_B_M1DQ0_1 (io), L16 IO_L47N_LDC_M1DQ1_1 (io), M13 IO_L74P_AWAKE_1 (io), M14 IO_L74N_DOUT_BUSY_1 (io), M15 IO_L46P_FCS_B_M1DQ2_1 (io), M16 IO_L46N_FOE_B_M1DQ3_1 (io), N14 IO_L45P_A1_M1LDQS_1 (io), N15 VCCO_1 (power), N16 IO_L45N_A0_M1LDQSN_1 (io), P15 IO_L48P_HDC_M1DQ8_1 (io), P16 IO_L48N_M1DQ9_1 (io), R12 IO_L52P_M1DQ14_1 (io), R13 VCCO_1 (power), R14 IO_L50P_M1UDQS_1 (io), R15 IO_L49P_M1DQ10_1 (io), R16 IO_L49N_M1DQ11_1 (io), T12 IO_L52N_M1DQ15_1 (io), T13 IO_L51N_M1DQ13_1 (io), T14 IO_L51P_M1DQ12_1 (io), T15 IO_L50N_M1UDQSN_1 (io)
part C pins: L7 IO_L62N_D6_2 (io), L8 IO_L62P_D5_2 (io), L10 IO_L16P_2 (io), M6 IO_L64P_D8_2 (io), M7 IO_L31N_GCLK30_D15_2 (io), M9 IO_L29P_GCLK3_2 (io), M10 IO_L16N_VREF_2 (io), M11 IO_L2N_CMPMOSI_2 (io), M12 IO_L2P_CMPCLK_2 (io), N5 IO_L49P_D3_2 (io), N6 IO_L64N_D9_2 (io), N7 VCCO_2 (power), N8 IO_L29N_GCLK2_2 (io), N9 IO_L14P_D11_2 (io), N10 VCCO_2 (power), N11 IO_L13P_M1_2 (io), N12 IO_L12P_D1_MISO2_2 (io), P4 IO_L63P_2 (io), P5 IO_L49N_D4_2 (io), P6 IO_L47P_2 (io), P7 IO_L31P_GCLK31_D14_2 (io), P8 IO_L30P_GCLK1_D13_2 (io), P9 IO_L14N_D12_2 (io), P10 IO_L3P_D0_DIN_MISO_MISO1_2 (io), P11 IO_L13N_D10_2 (io), P12 IO_L12N_D2_MISO3_2 (io), R3 IO_L65P_INIT_B_2 (io), R4 VCCO_2 (power), R5 IO_L48P_D7_2 (io), R7 IO_L32P_GCLK29_2 (io), R8 VCCO_2 (power), R9 IO_L23P_2 (io), R11 IO_L1P_CCLK_2 (io), T3 IO_L65N_CSO_B_2 (io), T4 IO_L63N_2 (io), T5 IO_L48N_RDWR_B_VREF_2 (io), T6 IO_L47N_2 (io), T7 IO_L32N_GCLK28_2 (io), T8 IO_L30N_GCLK0_USERCCLK_2 (io), T9 IO_L23N_2 (io), T10 IO_L3N_MOSI_CSI_B_MISO0_2 (io), T11 IO_L1N_M0_CMPMISO_2 (io)
part D pins: A2 IO_L52N_M3A9_3 (io), A3 IO_L83N_VREF_3 (io), B1 IO_L50N_M3BA2_3 (io), B2 IO_L52P_M3A8_3 (io), B3 IO_L83P_3 (io), C1 IO_L50P_M3WE_3 (io), C2 IO_L48N_M3BA1_3 (io), C3 IO_L48P_M3BA0_3 (io), D1 IO_L49N_M3A2_3 (io), D2 VCCO_3 (power), D3 IO_L49P_M3A7_3 (io), E1 IO_L46N_M3CLKN_3 (io), E2 IO_L46P_M3CLK_3 (io), E3 IO_L54N_M3A11_3 (io), E4 IO_L54P_M3RESET_3 (io), F1 IO_L41N_GCLK26_M3DQ5_3 (io), F2 IO_L41P_GCLK27_M3DQ4_3 (io), F3 IO_L53N_M3A12_3 (io), F4 IO_L53P_M3CKE_3 (io), F5 IO_L55N_M3A14_3 (io), F6 IO_L55P_M3A13_3 (io), G1 IO_L40N_M3DQ7_3 (io), G3 IO_L40P_M3DQ6_3 (io), G4 VCCO_3 (power), G5 IO_L51N_M3A4_3 (io), G6 IO_L51P_M3A10_3 (io), H1 IO_L39N_M3LDQSN_3 (io), H2 IO_L39P_M3LDQS_3 (io), H3 IO_L44N_GCLK20_M3A6_3 (io), H4 IO_L44P_GCLK21_M3A5_3 (io), H5 IO_L43N_GCLK22_IRDY2_M3CASN_3 (io), J1 IO_L38N_M3DQ3_3 (io), J2 VCCO_3 (power), J3 IO_L38P_M3DQ2_3 (io), J4 IO_L42N_GCLK24_M3LDM_3 (io), J6 IO_L43P_GCLK23_M3RASN_3 (io), K1 IO_L37N_M3DQ1_3 (io), K2 IO_L37P_M3DQ0_3 (io), K3 IO_L42P_GCLK25_TRDY2_M3UDM_3 (io), K4 VCCO_3 (power), K5 IO_L47P_M3A0_3 (io), K6 IO_L47N_M3A1_3 (io), L1 IO_L36N_M3DQ9_3 (io), L3 IO_L36P_M3DQ8_3 (io), L4 IO_L45P_M3A3_3 (io), L5 IO_L45N_M3ODT_3 (io), M1 IO_L35N_M3DQ11_3 (io), M2 IO_L35P_M3DQ10_3 (io), M3 IO_L1N_VREF_3 (io), M4 IO_L1P_3 (io), M5 IO_L2P_3 (io), N1 IO_L34N_M3UDQSN_3 (io), N2 VCCO_3 (power), N3 IO_L34P_M3UDQS_3 (io), N4 IO_L2N_3 (io), P1 IO_L33N_M3DQ13_3 (io), P2 IO_L33P_M3DQ12_3 (io), R1 IO_L32N_M3DQ15_3 (io), R2 IO_L32P_M3DQ14_3 (io)
part E pins: A15 TMS (in), C12 TDI (in), C14 TCK (in), E14 TDO (out), L11 CMPCS_B_2 (in), P13 DONE_2 (io), P14 SUSPEND (in), T2 PROGRAM_B_2 (in)
part F pins: E5 VCCAUX (power), F8 VCCAUX (power), F11 VCCAUX (power), G7 VCCINT (power), G9 VCCINT (power), G10 VCCAUX (power), H6 VCCAUX (power), H8 VCCINT (power), H10 VCCINT (power), J7 VCCINT (power), J9 VCCINT (power), J10 VCCAUX (power), K8 VCCINT (power), K10 VCCINT (power), L6 VCCAUX (power), L9 VCCAUX (power)
part G pins: A1 GND (power), A16 GND (power), B7 GND (power), B11 GND (power), D4 GND (power), D13 GND (power), E9 GND (power), G2 GND (power), G8 GND (power), G15 GND (power), H7 GND (power), H9 GND (power), H12 GND (power), J5 GND (power), J8 GND (power), K7 GND (power), K9 GND (power), L2 GND (power), L15 GND (power), M8 GND (power), N13 GND (power), P3 GND (power), R6 GND (power), R10 GND (power), T1 GND (power), T16 GND (power)
part A text: BANK 0
part B text: BANK 1
part C text: BANK 2
part D text: BANK 3
part E text: CONFIG

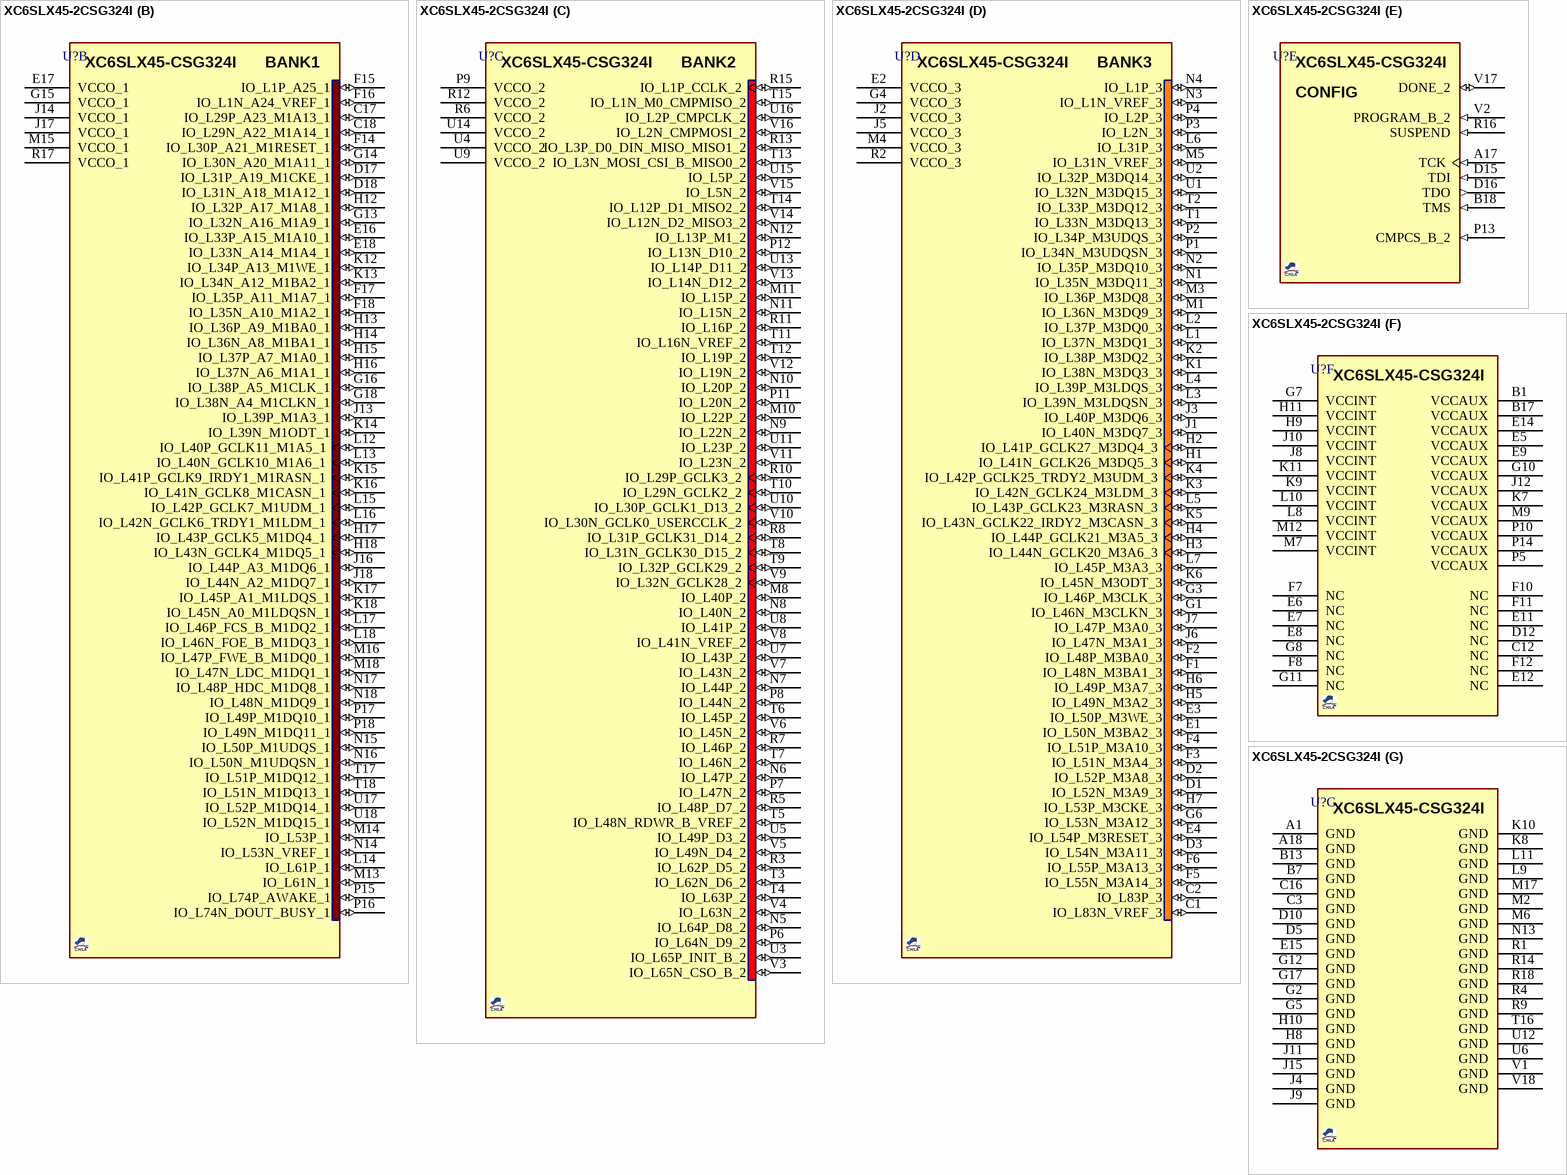
[diagram p4: symbol XC6SLX45-2CSG324I]

## XC6SLX45-2CSG324I
designator U?, comment XC6SLX45-CSG324I  (value not drawn)
Spartan-6 LX 1.2V FPGA, 218 User I/Os, 324-Ball Chip-Scale BGA (0.8mm Pitch), Speed Grade 2, Industrial Grade; MANF: XILINX; MANF_P#: XC6SLX45-2CSG324I; ASSEMBLY: ASSEMBLY; VALUE: XC6SLX45-CSG324I; PACKAGE: CSG324; MountType: SMT
footprint BGA80_324_S15 (AM33XX_15X15)
part A pins: A2 IO_L2N_0 (io), A3 IO_L4N_0 (io), A4 IO_L5N_0 (io), A5 IO_L6N_0 (io), A6 IO_L8N_VREF_0 (io), A7 IO_L10N_0 (io), A8 IO_L33N_0 (io), A9 IO_L35N_GCLK16_0 (io), A10 IO_L37N_GCLK12_0 (io), A11 IO_L39N_0 (io), A12 IO_L41N_0 (io), A13 IO_L50N_0 (io), A14 IO_L62N_VREF_0 (io), A15 IO_L64N_SCP4_0 (io), A16 IO_L66N_SCP0_0 (io), B2 IO_L2P_0 (io), B3 IO_L4P_0 (io), B4 IO_L5P_0 (io), B5 VCCO_0 (power), B6 IO_L8P_0 (io), B8 IO_L33P_0 (io), B9 IO_L35P_GCLK17_0 (io), B10 VCCO_0 (power), B11 IO_L39P_0 (io), B12 IO_L41P_0 (io), B14 IO_L62P_0 (io), B15 VCCO_0 (power), B16 IO_L66P_SCP1_0 (io), C4 IO_L1N_VREF_0 (io), C5 IO_L6P_0 (io), C6 IO_L3N_0 (io), C7 IO_L10P_0 (io), C8 IO_L11N_0 (io), C9 IO_L34N_GCLK18_0 (io), C10 IO_L37P_GCLK13_0 (io), C11 IO_L36N_GCLK14_0 (io), C13 IO_L50P_0 (io), C14 IO_L65N_SCP2_0 (io), C15 IO_L64P_SCP5_0 (io), D4 IO_L1P_HSWAPEN_0 (io), D6 IO_L3P_0 (io), D7 VCCO_0 (power), D8 IO_L11P_0 (io), D9 IO_L34P_GCLK19_0 (io), D11 IO_L36P_GCLK15_0 (io), D13 VCCO_0 (power), D14 IO_L65P_SCP3_0 (io), E10 VCCO_0 (power), E13 IO_L63N_SCP6_0 (io), F9 IO_L38N_VREF_0 (io), F13 IO_L63P_SCP7_0 (io), G9 IO_L38P_0 (io)
part B pins: C17 IO_L29P_A23_M1A13_1 (io), C18 IO_L29N_A22_M1A14_1 (io), D17 IO_L31P_A19_M1CKE_1 (io), D18 IO_L31N_A18_M1A12_1 (io), E16 IO_L33P_A15_M1A10_1 (io), E17 VCCO_1 (power), E18 IO_L33N_A14_M1A4_1 (io), F14 IO_L30P_A21_M1RESET_1 (io), F15 IO_L1P_A25_1 (io), F16 IO_L1N_A24_VREF_1 (io), F17 IO_L35P_A11_M1A7_1 (io), F18 IO_L35N_A10_M1A2_1 (io), G13 IO_L32N_A16_M1A9_1 (io), G14 IO_L30N_A20_M1A11_1 (io), G15 VCCO_1 (power), G16 IO_L38P_A5_M1CLK_1 (io), G18 IO_L38N_A4_M1CLKN_1 (io), H12 IO_L32P_A17_M1A8_1 (io), H13 IO_L36P_A9_M1BA0_1 (io), H14 IO_L36N_A8_M1BA1_1 (io), H15 IO_L37P_A7_M1A0_1 (io), H16 IO_L37N_A6_M1A1_1 (io), H17 IO_L43P_GCLK5_M1DQ4_1 (io), H18 IO_L43N_GCLK4_M1DQ5_1 (io), J13 IO_L39P_M1A3_1 (io), J14 VCCO_1 (power), J16 IO_L44P_A3_M1DQ6_1 (io), J17 VCCO_1 (power), J18 IO_L44N_A2_M1DQ7_1 (io), K12 IO_L34P_A13_M1WE_1 (io), K13 IO_L34N_A12_M1BA2_1 (io), K14 IO_L39N_M1ODT_1 (io), K15 IO_L41P_GCLK9_IRDY1_M1RASN_1 (io), K16 IO_L41N_GCLK8_M1CASN_1 (io), K17 IO_L45P_A1_M1LDQS_1 (io), K18 IO_L45N_A0_M1LDQSN_1 (io), L12 IO_L40P_GCLK11_M1A5_1 (io), L13 IO_L40N_GCLK10_M1A6_1 (io), L14 IO_L61P_1 (io), L15 IO_L42P_GCLK7_M1UDM_1 (io), L16 IO_L42N_GCLK6_TRDY1_M1LDM_1 (io), L17 IO_L46P_FCS_B_M1DQ2_1 (io), L18 IO_L46N_FOE_B_M1DQ3_1 (io), M13 IO_L61N_1 (io), M14 IO_L53P_1 (io), M15 VCCO_1 (power), M16 IO_L47P_FWE_B_M1DQ0_1 (io), M18 IO_L47N_LDC_M1DQ1_1 (io), N14 IO_L53N_VREF_1 (io), N15 IO_L50P_M1UDQS_1 (io), N16 IO_L50N_M1UDQSN_1 (io), N17 IO_L48P_HDC_M1DQ8_1 (io), N18 IO_L48N_M1DQ9_1 (io), P15 IO_L74P_AWAKE_1 (io), P16 IO_L74N_DOUT_BUSY_1 (io), P17 IO_L49P_M1DQ10_1 (io), P18 IO_L49N_M1DQ11_1 (io), R17 VCCO_1 (power), T17 IO_L51P_M1DQ12_1 (io), T18 IO_L51N_M1DQ13_1 (io), U17 IO_L52P_M1DQ14_1 (io), U18 IO_L52N_M1DQ15_1 (io)
part C pins: M8 IO_L40P_2 (io), M10 IO_L22P_2 (io), M11 IO_L15P_2 (io), N5 IO_L64P_D8_2 (io), N6 IO_L47P_2 (io), N7 IO_L44P_2 (io), N8 IO_L40N_2 (io), N9 IO_L22N_2 (io), N10 IO_L20P_2 (io), N11 IO_L15N_2 (io), N12 IO_L13P_M1_2 (io), P6 IO_L64N_D9_2 (io), P7 IO_L47N_2 (io), P8 IO_L44N_2 (io), P9 VCCO_2 (power), P11 IO_L20N_2 (io), P12 IO_L13N_D10_2 (io), R3 IO_L62P_D5_2 (io), R5 IO_L48P_D7_2 (io), R6 VCCO_2 (power), R7 IO_L46P_2 (io), R8 IO_L31P_GCLK31_D14_2 (io), R10 IO_L29P_GCLK3_2 (io), R11 IO_L16P_2 (io), R12 VCCO_2 (power), R13 IO_L3P_D0_DIN_MISO_MISO1_2 (io), R15 IO_L1P_CCLK_2 (io), T3 IO_L62N_D6_2 (io), T4 IO_L63P_2 (io), T5 IO_L48N_RDWR_B_VREF_2 (io), T6 IO_L45P_2 (io), T7 IO_L46N_2 (io), T8 IO_L31N_GCLK30_D15_2 (io), T9 IO_L32P_GCLK29_2 (io), T10 IO_L29N_GCLK2_2 (io), T11 IO_L16N_VREF_2 (io), T12 IO_L19P_2 (io), T13 IO_L3N_MOSI_CSI_B_MISO0_2 (io), T14 IO_L12P_D1_MISO2_2 (io), T15 IO_L1N_M0_CMPMISO_2 (io), U3 IO_L65P_INIT_B_2 (io), U4 VCCO_2 (power), U5 IO_L49P_D3_2 (io), U7 IO_L43P_2 (io), U8 IO_L41P_2 (io), U9 VCCO_2 (power), U10 IO_L30P_GCLK1_D13_2 (io), U11 IO_L23P_2 (io), U13 IO_L14P_D11_2 (io), U14 VCCO_2 (power), U15 IO_L5P_2 (io), U16 IO_L2P_CMPCLK_2 (io), V3 IO_L65N_CSO_B_2 (io), V4 IO_L63N_2 (io), V5 IO_L49N_D4_2 (io), V6 IO_L45N_2 (io), V7 IO_L43N_2 (io), V8 IO_L41N_VREF_2 (io), V9 IO_L32N_GCLK28_2 (io), V10 IO_L30N_GCLK0_USERCCLK_2 (io), V11 IO_L23N_2 (io), V12 IO_L19N_2 (io), V13 IO_L14N_D12_2 (io), V14 IO_L12N_D2_MISO3_2 (io), V15 IO_L5N_2 (io), V16 IO_L2N_CMPMOSI_2 (io)
part D pins: C1 IO_L83N_VREF_3 (io), C2 IO_L83P_3 (io), D1 IO_L52N_M3A9_3 (io), D2 IO_L52P_M3A8_3 (io), D3 IO_L54N_M3A11_3 (io), E1 IO_L50N_M3BA2_3 (io), E2 VCCO_3 (power), E3 IO_L50P_M3WE_3 (io), E4 IO_L54P_M3RESET_3 (io), F1 IO_L48N_M3BA1_3 (io), F2 IO_L48P_M3BA0_3 (io), F3 IO_L51N_M3A4_3 (io), F4 IO_L51P_M3A10_3 (io), F5 IO_L55N_M3A14_3 (io), F6 IO_L55P_M3A13_3 (io), G1 IO_L46N_M3CLKN_3 (io), G3 IO_L46P_M3CLK_3 (io), G4 VCCO_3 (power), G6 IO_L53N_M3A12_3 (io), H1 IO_L41N_GCLK26_M3DQ5_3 (io), H2 IO_L41P_GCLK27_M3DQ4_3 (io), H3 IO_L44N_GCLK20_M3A6_3 (io), H4 IO_L44P_GCLK21_M3A5_3 (io), H5 IO_L49N_M3A2_3 (io), H6 IO_L49P_M3A7_3 (io), H7 IO_L53P_M3CKE_3 (io), J1 IO_L40N_M3DQ7_3 (io), J2 VCCO_3 (power), J3 IO_L40P_M3DQ6_3 (io), J5 VCCO_3 (power), J6 IO_L47N_M3A1_3 (io), J7 IO_L47P_M3A0_3 (io), K1 IO_L38N_M3DQ3_3 (io), K2 IO_L38P_M3DQ2_3 (io), K3 IO_L42N_GCLK24_M3LDM_3 (io), K4 IO_L42P_GCLK25_TRDY2_M3UDM_3 (io), K5 IO_L43N_GCLK22_IRDY2_M3CASN_3 (io), K6 IO_L45N_M3ODT_3 (io), L1 IO_L37N_M3DQ1_3 (io), L2 IO_L37P_M3DQ0_3 (io), L3 IO_L39N_M3LDQSN_3 (io), L4 IO_L39P_M3LDQS_3 (io), L5 IO_L43P_GCLK23_M3RASN_3 (io), L6 IO_L31P_3 (io), L7 IO_L45P_M3A3_3 (io), M1 IO_L36N_M3DQ9_3 (io), M3 IO_L36P_M3DQ8_3 (io), M4 VCCO_3 (power), M5 IO_L31N_VREF_3 (io), N1 IO_L35N_M3DQ11_3 (io), N2 IO_L35P_M3DQ10_3 (io), N3 IO_L1N_VREF_3 (io), N4 IO_L1P_3 (io), P1 IO_L34N_M3UDQSN_3 (io), P2 IO_L34P_M3UDQS_3 (io), P3 IO_L2N_3 (io), P4 IO_L2P_3 (io), R2 VCCO_3 (power), T1 IO_L33N_M3DQ13_3 (io), T2 IO_L33P_M3DQ12_3 (io), U1 IO_L32N_M3DQ15_3 (io), U2 IO_L32P_M3DQ14_3 (io)
part E pins: A17 TCK (in), B18 TMS (in), D15 TDI (in), D16 TDO (out), P13 CMPCS_B_2 (in), R16 SUSPEND (in), V2 PROGRAM_B_2 (in), V17 DONE_2 (io)
part F pins: B1 VCCAUX (power), B17 VCCAUX (power), C12 NC, D12 NC, E5 VCCAUX (power), E6 NC, E7 NC, E8 NC, E9 VCCAUX (power), E11 NC, E12 NC, E14 VCCAUX (power), F7 NC, F8 NC, F10 NC, F11 NC, F12 NC, G7 VCCINT (power), G8 NC, G10 VCCAUX (power), G11 NC, H9 VCCINT (power), H11 VCCINT (power), J8 VCCINT (power), J10 VCCINT (power), J12 VCCAUX (power), K7 VCCAUX (power), K9 VCCINT (power), K11 VCCINT (power), L8 VCCINT (power), L10 VCCINT (power), M7 VCCINT (power), M9 VCCAUX (power), M12 VCCINT (power), P5 VCCAUX (power), P10 VCCAUX (power), P14 VCCAUX (power)
part G pins: A1 GND (power), A18 GND (power), B7 GND (power), B13 GND (power), C3 GND (power), C16 GND (power), D5 GND (power), D10 GND (power), E15 GND (power), G2 GND (power), G5 GND (power), G12 GND (power), G17 GND (power), H8 GND (power), H10 GND (power), J4 GND (power), J9 GND (power), J11 GND (power), J15 GND (power), K8 GND (power), K10 GND (power), L9 GND (power), L11 GND (power), M2 GND (power), M6 GND (power), M17 GND (power), N13 GND (power), R1 GND (power), R4 GND (power), R9 GND (power), R14 GND (power), R18 GND (power), T16 GND (power), U6 GND (power), U12 GND (power), V1 GND (power), V18 GND (power)
part A text: BANK0
part B text: BANK1
part C text: BANK2
part D text: BANK3
part E text: CONFIG

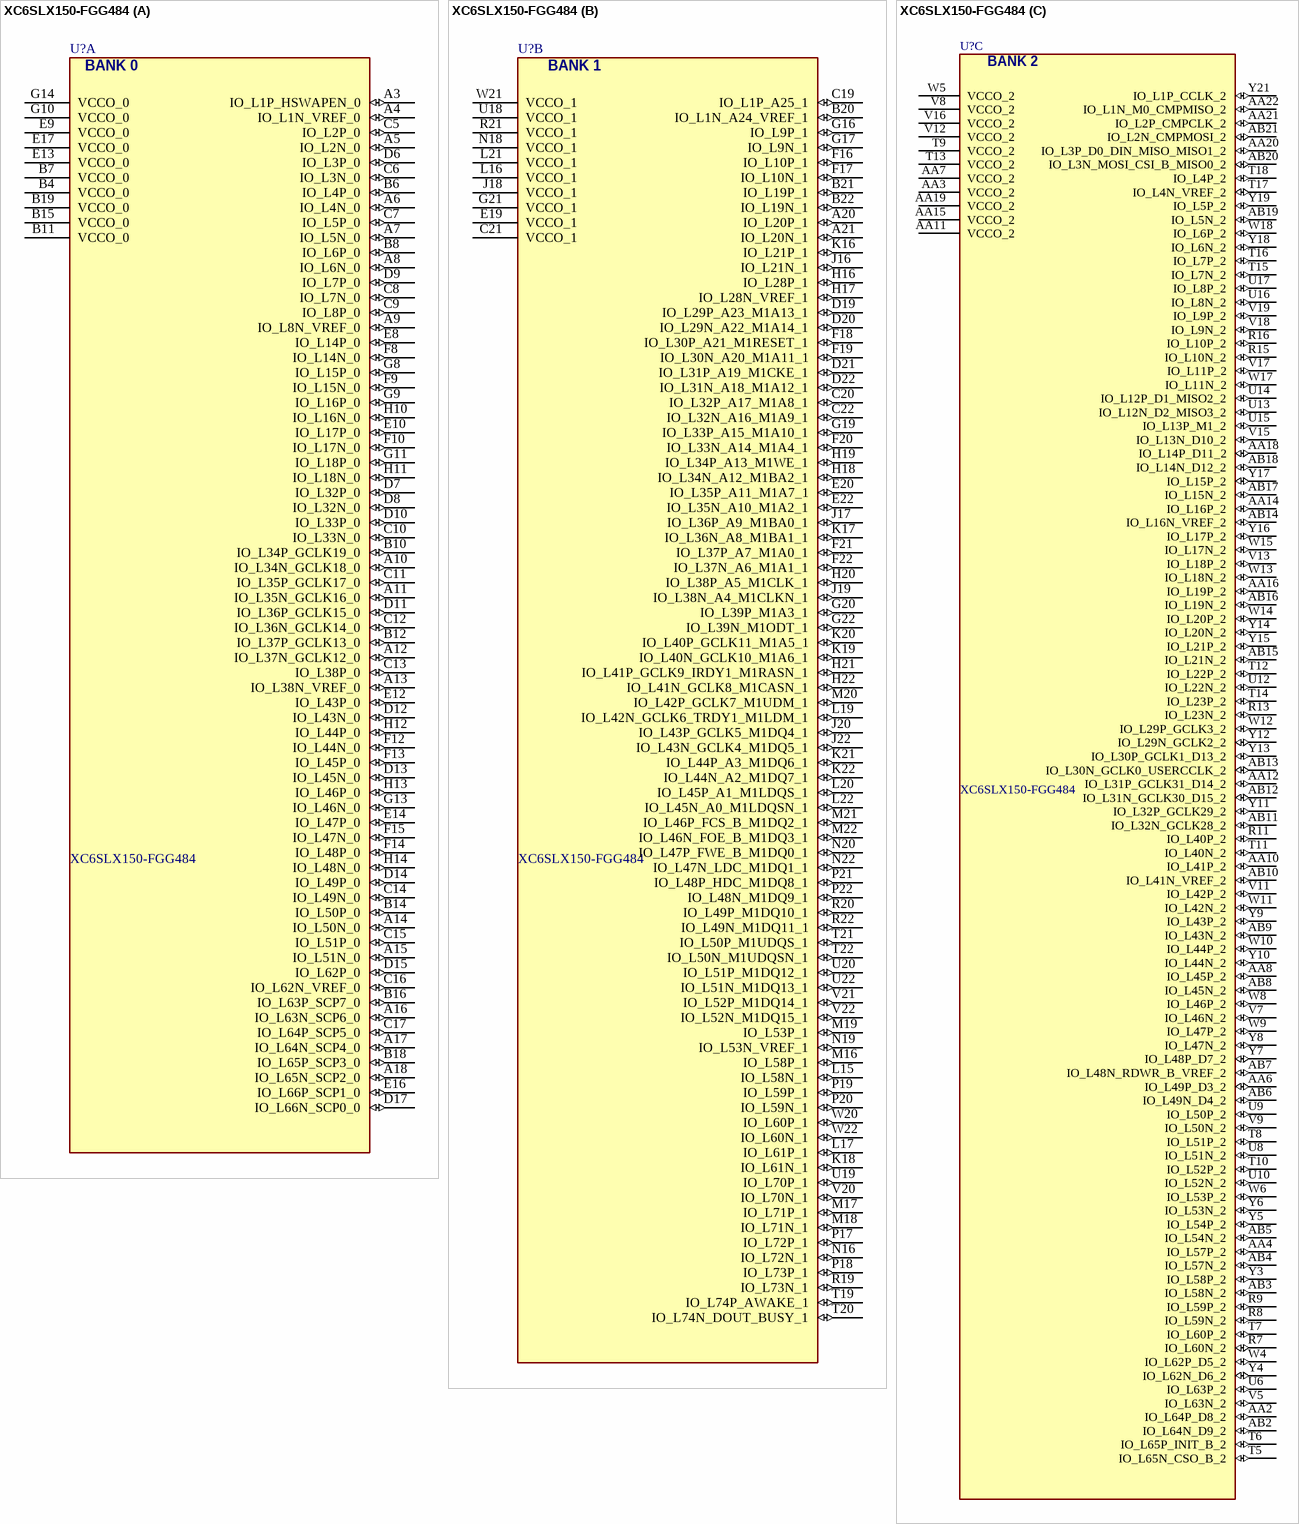
[diagram p5: symbol XC6SLX150-FGG484]

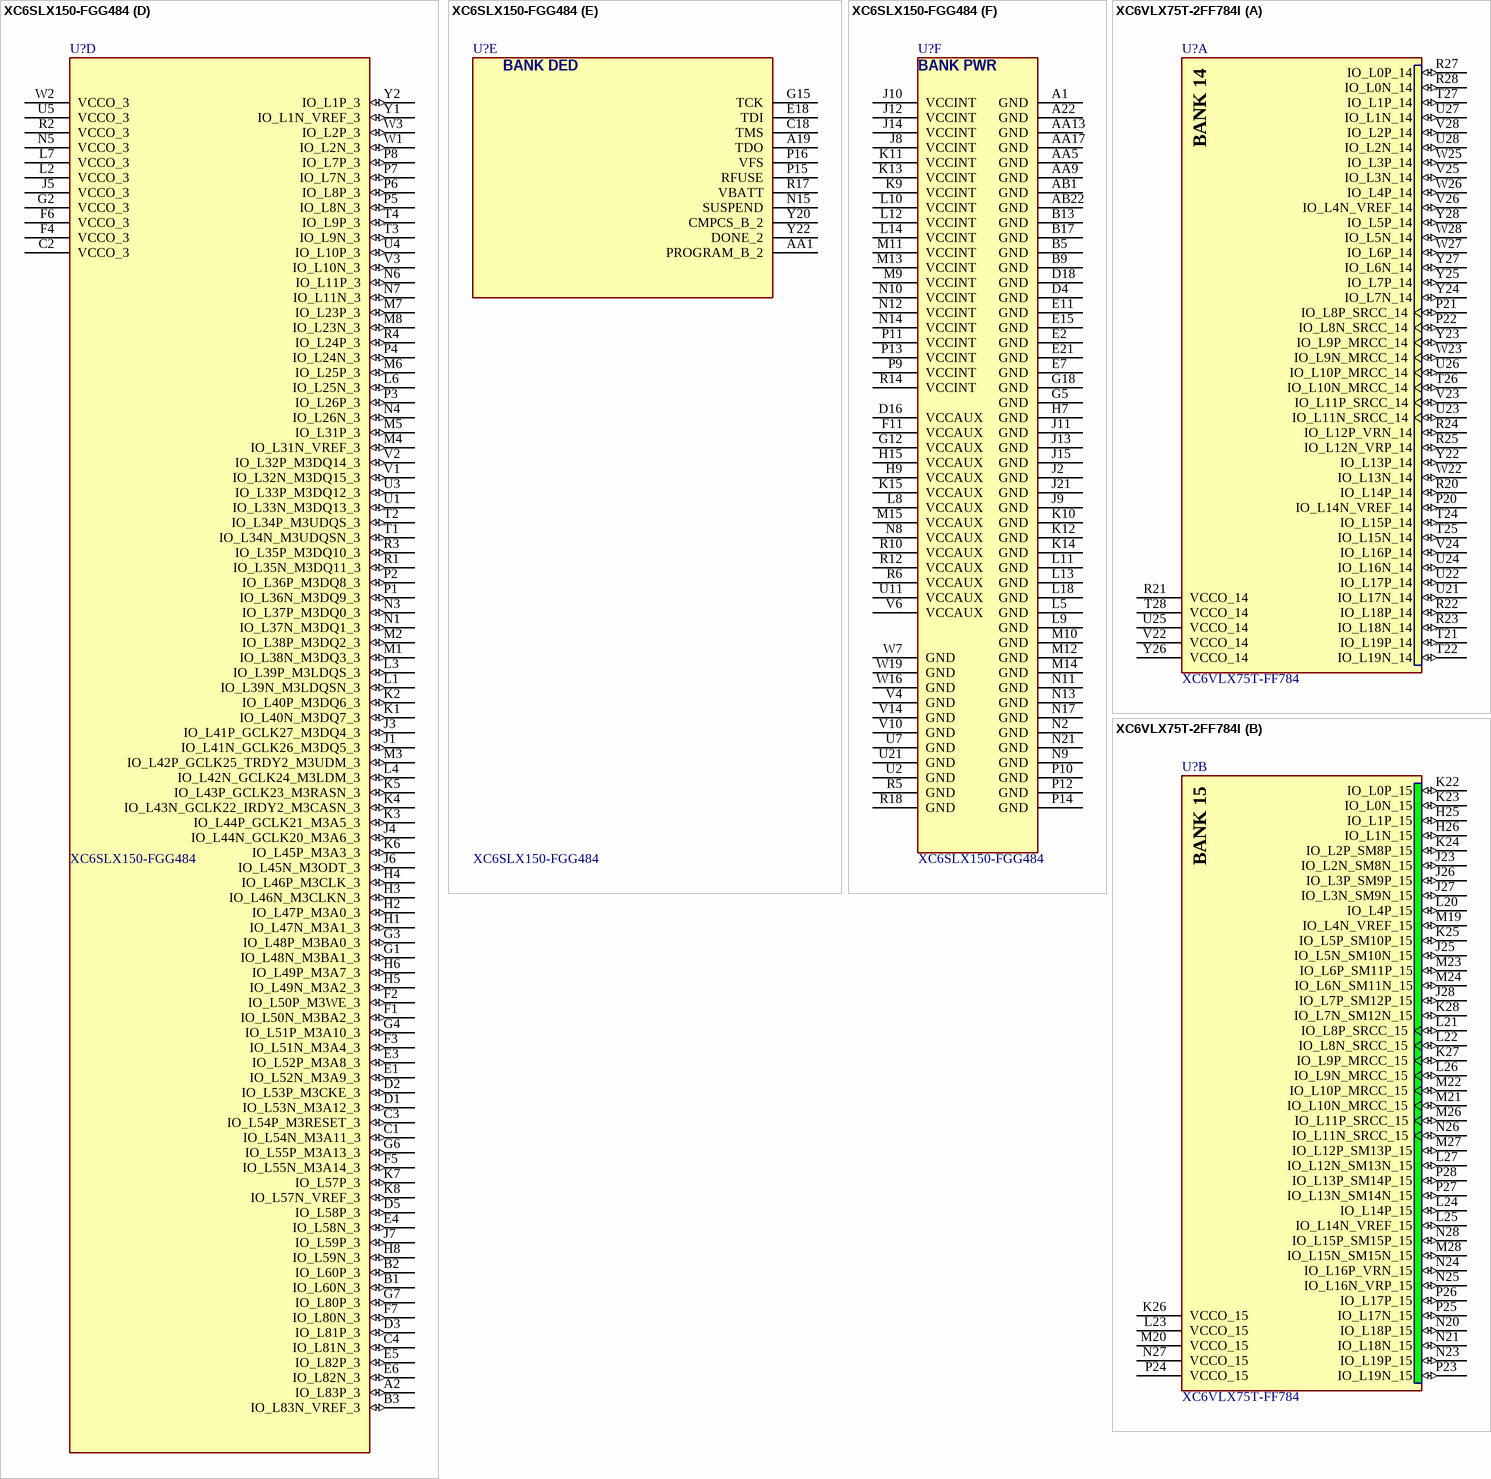
[diagram p6: symbols XC6SLX150-FGG484 to XC6VLX75T-2FF784I]

## XC6SLX150-FGG484
designator U?
Spartan-6 LX 1.2V FPGA, - User I/Os, 484-Ball Chip-Scale BGA (1mm Pitch), Speed Grade 1; MANF: XILINX; ASSEMBLY: ASSEMBLY; MANF_P#: XC6SLX150-FGG484; VALUE: XC6SLX150-FGG484; PACKAGE: FGG484; MountType: SMT
footprint BGA100_484_S23 (BGA, 484-Leads, Body 23.0x23.0mm,  Pitch 1.00mm)
part A pins: A3 IO_L1P_HSWAPEN_0 (io), A4 IO_L1N_VREF_0 (io), A5 IO_L2N_0 (io), A6 IO_L4N_0 (io), A7 IO_L5N_0 (io), A8 IO_L6N_0 (io), A9 IO_L8N_VREF_0 (io), A10 IO_L34N_GCLK18_0 (io), A11 IO_L35N_GCLK16_0 (io), A12 IO_L37N_GCLK12_0 (io), A13 IO_L38N_VREF_0 (io), A14 IO_L50N_0 (io), A15 IO_L51N_0 (io), A16 IO_L63N_SCP6_0 (io), A17 IO_L64N_SCP4_0 (io), A18 IO_L65N_SCP2_0 (io), B4 VCCO_0 (power), B6 IO_L4P_0 (io), B7 VCCO_0 (power), B8 IO_L6P_0 (io), B10 IO_L34P_GCLK19_0 (io), B11 VCCO_0 (power), B12 IO_L37P_GCLK13_0 (io), B14 IO_L50P_0 (io), B15 VCCO_0 (power), B16 IO_L63P_SCP7_0 (io), B18 IO_L65P_SCP3_0 (io), B19 VCCO_0 (power), C5 IO_L2P_0 (io), C6 IO_L3N_0 (io), C7 IO_L5P_0 (io), C8 IO_L7N_0 (io), C9 IO_L8P_0 (io), C10 IO_L33N_0 (io), C11 IO_L35P_GCLK17_0 (io), C12 IO_L36N_GCLK14_0 (io), C13 IO_L38P_0 (io), C14 IO_L49N_0 (io), C15 IO_L51P_0 (io), C16 IO_L62N_VREF_0 (io), C17 IO_L64P_SCP5_0 (io), D6 IO_L3P_0 (io), D7 IO_L32P_0 (io), D8 IO_L32N_0 (io), D9 IO_L7P_0 (io), D10 IO_L33P_0 (io), D11 IO_L36P_GCLK15_0 (io), D12 IO_L43N_0 (io), D13 IO_L45N_0 (io), D14 IO_L49P_0 (io), D15 IO_L62P_0 (io), D17 IO_L66N_SCP0_0 (io), E8 IO_L14P_0 (io), E9 VCCO_0 (power), E10 IO_L17P_0 (io), E12 IO_L43P_0 (io), E13 VCCO_0 (power), E14 IO_L47P_0 (io), E16 IO_L66P_SCP1_0 (io), E17 VCCO_0 (power), F8 IO_L14N_0 (io), F9 IO_L15N_0 (io), F10 IO_L17N_0 (io), F12 IO_L44N_0 (io), F13 IO_L45P_0 (io), F14 IO_L48P_0 (io), F15 IO_L47N_0 (io), G8 IO_L15P_0 (io), G9 IO_L16P_0 (io), G10 VCCO_0 (power), G11 IO_L18P_0 (io), G13 IO_L46N_0 (io), G14 VCCO_0 (power), H10 IO_L16N_0 (io), H11 IO_L18N_0 (io), H12 IO_L44P_0 (io), H13 IO_L46P_0 (io), H14 IO_L48N_0 (io)
part B pins: A20 IO_L20P_1 (io), A21 IO_L20N_1 (io), B20 IO_L1N_A24_VREF_1 (io), B21 IO_L19P_1 (io), B22 IO_L19N_1 (io), C19 IO_L1P_A25_1 (io), C20 IO_L32P_A17_M1A8_1 (io), C21 VCCO_1 (power), C22 IO_L32N_A16_M1A9_1 (io), D19 IO_L29P_A23_M1A13_1 (io), D20 IO_L29N_A22_M1A14_1 (io), D21 IO_L31P_A19_M1CKE_1 (io), D22 IO_L31N_A18_M1A12_1 (io), E19 VCCO_1 (power), E20 IO_L35P_A11_M1A7_1 (io), E22 IO_L35N_A10_M1A2_1 (io), F16 IO_L10P_1 (io), F17 IO_L10N_1 (io), F18 IO_L30P_A21_M1RESET_1 (io), F19 IO_L30N_A20_M1A11_1 (io), F20 IO_L33N_A14_M1A4_1 (io), F21 IO_L37P_A7_M1A0_1 (io), F22 IO_L37N_A6_M1A1_1 (io), G16 IO_L9P_1 (io), G17 IO_L9N_1 (io), G19 IO_L33P_A15_M1A10_1 (io), G20 IO_L39P_M1A3_1 (io), G21 VCCO_1 (power), G22 IO_L39N_M1ODT_1 (io), H16 IO_L28P_1 (io), H17 IO_L28N_VREF_1 (io), H18 IO_L34N_A12_M1BA2_1 (io), H19 IO_L34P_A13_M1WE_1 (io), H20 IO_L38P_A5_M1CLK_1 (io), H21 IO_L41P_GCLK9_IRDY1_M1RASN_1 (io), H22 IO_L41N_GCLK8_M1CASN_1 (io), J16 IO_L21N_1 (io), J17 IO_L36P_A9_M1BA0_1 (io), J18 VCCO_1 (power), J19 IO_L38N_A4_M1CLKN_1 (io), J20 IO_L43P_GCLK5_M1DQ4_1 (io), J22 IO_L43N_GCLK4_M1DQ5_1 (io), K16 IO_L21P_1 (io), K17 IO_L36N_A8_M1BA1_1 (io), K18 IO_L61N_1 (io), K19 IO_L40N_GCLK10_M1A6_1 (io), K20 IO_L40P_GCLK11_M1A5_1 (io), K21 IO_L44P_A3_M1DQ6_1 (io), K22 IO_L44N_A2_M1DQ7_1 (io), L15 IO_L58N_1 (io), L16 VCCO_1 (power), L17 IO_L61P_1 (io), L19 IO_L42N_GCLK6_TRDY1_M1LDM_1 (io), L20 IO_L45P_A1_M1LDQS_1 (io), L21 VCCO_1 (power), L22 IO_L45N_A0_M1LDQSN_1 (io), M16 IO_L58P_1 (io), M17 IO_L71P_1 (io), M18 IO_L71N_1 (io), M19 IO_L53P_1 (io), M20 IO_L42P_GCLK7_M1UDM_1 (io), M21 IO_L46P_FCS_B_M1DQ2_1 (io), M22 IO_L46N_FOE_B_M1DQ3_1 (io), N16 IO_L72N_1 (io), N18 VCCO_1 (power), N19 IO_L53N_VREF_1 (io), N20 IO_L47P_FWE_B_M1DQ0_1 (io), N22 IO_L47N_LDC_M1DQ1_1 (io), P17 IO_L72P_1 (io), P18 IO_L73P_1 (io), P19 IO_L59P_1 (io), P20 IO_L59N_1 (io), P21 IO_L48P_HDC_M1DQ8_1 (io), P22 IO_L48N_M1DQ9_1 (io), R19 IO_L73N_1 (io), R20 IO_L49P_M1DQ10_1 (io), R21 VCCO_1 (power), R22 IO_L49N_M1DQ11_1 (io), T19 IO_L74P_AWAKE_1 (io), T20 IO_L74N_DOUT_BUSY_1 (io), T21 IO_L50P_M1UDQS_1 (io), T22 IO_L50N_M1UDQSN_1 (io), U18 VCCO_1 (power), U19 IO_L70P_1 (io), U20 IO_L51P_M1DQ12_1 (io), U22 IO_L51N_M1DQ13_1 (io), V20 IO_L70N_1 (io), V21 IO_L52P_M1DQ14_1 (io), V22 IO_L52N_M1DQ15_1 (io), W20 IO_L60P_1 (io), W21 VCCO_1 (power), W22 IO_L60N_1 (io)
part C pins: AA2 IO_L64P_D8_2 (io), AA3 VCCO_2 (power), AA4 IO_L57P_2 (io), AA6 IO_L49P_D3_2 (io), AA7 VCCO_2 (power), AA8 IO_L45P_2 (io), AA10 IO_L41P_2 (io), AA11 VCCO_2 (power), AA12 IO_L31P_GCLK31_D14_2 (io), AA14 IO_L16P_2 (io), AA15 VCCO_2 (power), AA16 IO_L19P_2 (io), AA18 IO_L14P_D11_2 (io), AA19 VCCO_2 (power), AA20 IO_L3P_D0_DIN_MISO_MISO1_2 (io), AA21 IO_L2P_CMPCLK_2 (io), AA22 IO_L1N_M0_CMPMISO_2 (io), AB2 IO_L64N_D9_2 (io), AB3 IO_L58N_2 (io), AB4 IO_L57N_2 (io), AB5 IO_L54N_2 (io), AB6 IO_L49N_D4_2 (io), AB7 IO_L48N_RDWR_B_VREF_2 (io), AB8 IO_L45N_2 (io), AB9 IO_L43N_2 (io), AB10 IO_L41N_VREF_2 (io), AB11 IO_L32N_GCLK28_2 (io), AB12 IO_L31N_GCLK30_D15_2 (io), AB13 IO_L30N_GCLK0_USERCCLK_2 (io), AB14 IO_L16N_VREF_2 (io), AB15 IO_L21N_2 (io), AB16 IO_L19N_2 (io), AB17 IO_L15N_2 (io), AB18 IO_L14N_D12_2 (io), AB19 IO_L5N_2 (io), AB20 IO_L3N_MOSI_CSI_B_MISO0_2 (io), AB21 IO_L2N_CMPMOSI_2 (io), R7 IO_L60N_2 (io), R8 IO_L59N_2 (io), R9 IO_L59P_2 (io), R11 IO_L40P_2 (io), R13 IO_L23N_2 (io), R15 IO_L10N_2 (io), R16 IO_L10P_2 (io), T5 IO_L65N_CSO_B_2 (io), T6 IO_L65P_INIT_B_2 (io), T7 IO_L60P_2 (io), T8 IO_L51P_2 (io), T9 VCCO_2 (power), T10 IO_L52P_2 (io), T11 IO_L40N_2 (io), T12 IO_L22P_2 (io), T13 VCCO_2 (power), T14 IO_L23P_2 (io), T15 IO_L7N_2 (io), T16 IO_L7P_2 (io), T17 IO_L4N_VREF_2 (io), T18 IO_L4P_2 (io), U6 IO_L63P_2 (io), U8 IO_L51N_2 (io), U9 IO_L50P_2 (io), U10 IO_L52N_2 (io), U12 IO_L22N_2 (io), U13 IO_L12N_D2_MISO3_2 (io), U14 IO_L12P_D1_MISO2_2 (io), U15 IO_L13P_M1_2 (io), U16 IO_L8N_2 (io), U17 IO_L8P_2 (io), V5 IO_L63N_2 (io), V7 IO_L46N_2 (io), V8 VCCO_2 (power), V9 IO_L50N_2 (io), V11 IO_L42P_2 (io), V12 VCCO_2 (power), V13 IO_L18P_2 (io), V15 IO_L13N_D10_2 (io), V16 VCCO_2 (power), V17 IO_L11P_2 (io), V18 IO_L9N_2 (io), V19 IO_L9P_2 (io), W4 IO_L62P_D5_2 (io), W5 VCCO_2 (power), W6 IO_L53P_2 (io), W8 IO_L46P_2 (io), W9 IO_L47P_2 (io), W10 IO_L44P_2 (io), W11 IO_L42N_2 (io), W12 IO_L29P_GCLK3_2 (io), W13 IO_L18N_2 (io), W14 IO_L20P_2 (io), W15 IO_L17N_2 (io), W17 IO_L11N_2 (io), W18 IO_L6P_2 (io), Y3 IO_L58P_2 (io), Y4 IO_L62N_D6_2 (io), Y5 IO_L54P_2 (io), Y6 IO_L53N_2 (io), Y7 IO_L48P_D7_2 (io), Y8 IO_L47N_2 (io), Y9 IO_L43P_2 (io), Y10 IO_L44N_2 (io), Y11 IO_L32P_GCLK29_2 (io), Y12 IO_L29N_GCLK2_2 (io), Y13 IO_L30P_GCLK1_D13_2 (io), Y14 IO_L20N_2 (io), Y15 IO_L21P_2 (io), Y16 IO_L17P_2 (io), Y17 IO_L15P_2 (io), Y18 IO_L6N_2 (io), Y19 IO_L5P_2 (io), Y21 IO_L1P_CCLK_2 (io)
part D pins: A2 IO_L83P_3 (io), B1 IO_L60N_3 (io), B2 IO_L60P_3 (io), B3 IO_L83N_VREF_3 (io), C1 IO_L54N_M3A11_3 (io), C2 VCCO_3 (power), C3 IO_L54P_M3RESET_3 (io), C4 IO_L81N_3 (io), D1 IO_L53N_M3A12_3 (io), D2 IO_L53P_M3CKE_3 (io), D3 IO_L81P_3 (io), D5 IO_L58P_3 (io), E1 IO_L52N_M3A9_3 (io), E3 IO_L52P_M3A8_3 (io), E4 IO_L58N_3 (io), E5 IO_L82P_3 (io), E6 IO_L82N_3 (io), F1 IO_L50N_M3BA2_3 (io), F2 IO_L50P_M3WE_3 (io), F3 IO_L51N_M3A4_3 (io), F4 VCCO_3 (power), F5 IO_L55N_M3A14_3 (io), F6 VCCO_3 (power), F7 IO_L80N_3 (io), G1 IO_L48N_M3BA1_3 (io), G2 VCCO_3 (power), G3 IO_L48P_M3BA0_3 (io), G4 IO_L51P_M3A10_3 (io), G6 IO_L55P_M3A13_3 (io), G7 IO_L80P_3 (io), H1 IO_L47N_M3A1_3 (io), H2 IO_L47P_M3A0_3 (io), H3 IO_L46N_M3CLKN_3 (io), H4 IO_L46P_M3CLK_3 (io), H5 IO_L49N_M3A2_3 (io), H6 IO_L49P_M3A7_3 (io), H8 IO_L59N_3 (io), J1 IO_L41N_GCLK26_M3DQ5_3 (io), J3 IO_L41P_GCLK27_M3DQ4_3 (io), J4 IO_L44N_GCLK20_M3A6_3 (io), J5 VCCO_3 (power), J6 IO_L45N_M3ODT_3 (io), J7 IO_L59P_3 (io), K1 IO_L40N_M3DQ7_3 (io), K2 IO_L40P_M3DQ6_3 (io), K3 IO_L44P_GCLK21_M3A5_3 (io), K4 IO_L43N_GCLK22_IRDY2_M3CASN_3 (io), K5 IO_L43P_GCLK23_M3RASN_3 (io), K6 IO_L45P_M3A3_3 (io), K7 IO_L57P_3 (io), K8 IO_L57N_VREF_3 (io), L1 IO_L39N_M3LDQSN_3 (io), L2 VCCO_3 (power), L3 IO_L39P_M3LDQS_3 (io), L4 IO_L42N_GCLK24_M3LDM_3 (io), L6 IO_L25N_3 (io), L7 VCCO_3 (power), M1 IO_L38N_M3DQ3_3 (io), M2 IO_L38P_M3DQ2_3 (io), M3 IO_L42P_GCLK25_TRDY2_M3UDM_3 (io), M4 IO_L31N_VREF_3 (io), M5 IO_L31P_3 (io), M6 IO_L25P_3 (io), M7 IO_L23P_3 (io), M8 IO_L23N_3 (io), N1 IO_L37N_M3DQ1_3 (io), N3 IO_L37P_M3DQ0_3 (io), N4 IO_L26N_3 (io), N5 VCCO_3 (power), N6 IO_L11P_3 (io), N7 IO_L11N_3 (io), P1 IO_L36N_M3DQ9_3 (io), P2 IO_L36P_M3DQ8_3 (io), P3 IO_L26P_3 (io), P4 IO_L24N_3 (io), P5 IO_L8N_3 (io), P6 IO_L8P_3 (io), P7 IO_L7N_3 (io), P8 IO_L7P_3 (io), R1 IO_L35N_M3DQ11_3 (io), R2 VCCO_3 (power), R3 IO_L35P_M3DQ10_3 (io), R4 IO_L24P_3 (io), T1 IO_L34N_M3UDQSN_3 (io), T2 IO_L34P_M3UDQS_3 (io), T3 IO_L9N_3 (io), T4 IO_L9P_3 (io), U1 IO_L33N_M3DQ13_3 (io), U3 IO_L33P_M3DQ12_3 (io), U4 IO_L10P_3 (io), U5 VCCO_3 (power), V1 IO_L32N_M3DQ15_3 (io), V2 IO_L32P_M3DQ14_3 (io), V3 IO_L10N_3 (io), W1 IO_L2N_3 (io), W2 VCCO_3 (power), W3 IO_L2P_3 (io), Y1 IO_L1N_VREF_3 (io), Y2 IO_L1P_3 (io)
part E pins: A19 TDO, AA1 PROGRAM_B_2, C18 TMS, E18 TDI, G15 TCK, N15 SUSPEND, P15 RFUSE, P16 VFS, R17 VBATT, Y20 CMPCS_B_2, Y22 DONE_2
part F pins: A1 GND (power), A22 GND (power), AA5 GND (power), AA9 GND (power), AA13 GND (power), AA17 GND (power), AB1 GND (power), AB22 GND (power), B5 GND (power), B9 GND (power), B13 GND (power), B17 GND (power), D4 GND (power), D16 VCCAUX (power), D18 GND (power), E2 GND (power), E7 GND (power), E11 GND (power), E15 GND (power), E21 GND (power), F11 VCCAUX (power), G5 GND (power), G12 VCCAUX (power), G18 GND (power), H7 GND (power), H9 VCCAUX (power), H15 VCCAUX (power), J2 GND (power), J8 VCCINT (power), J9 GND (power), J10 VCCINT (power), J11 GND (power), J12 VCCINT (power), J13 GND (power), J14 VCCINT (power), J15 GND (power), J21 GND (power), K9 VCCINT (power), K10 GND (power), K11 VCCINT (power), K12 GND (power), K13 VCCINT (power), K14 GND (power), K15 VCCAUX (power), L5 GND (power), L8 VCCAUX (power), L9 GND (power), L10 VCCINT (power), L11 GND (power), L12 VCCINT (power), L13 GND (power), L14 VCCINT (power), L18 GND (power), M9 VCCINT (power), M10 GND (power), M11 VCCINT (power), M12 GND (power), M13 VCCINT (power), M14 GND (power), M15 VCCAUX (power), N2 GND (power), N8 VCCAUX (power), N9 GND (power), N10 VCCINT (power), N11 GND (power), N12 VCCINT (power), N13 GND (power), N14 VCCINT (power), N17 GND (power), N21 GND (power), P9 VCCINT (power), P10 GND (power), P11 VCCINT (power), P12 GND (power), P13 VCCINT (power), P14 GND (power), R5 GND (power), R6 VCCAUX (power), R10 VCCAUX (power), R12 VCCAUX (power), R14 VCCINT (power), R18 GND (power), U2 GND (power), U7 GND (power), U11 VCCAUX (power), U21 GND (power), V4 GND (power), V6 VCCAUX (power), V10 GND (power), V14 GND (power), W7 GND (power), W16 GND (power), W19 GND (power)
part A text: BANK 0
part B text: BANK 1
part C text: BANK 2
part D text: BANK 3
part E text: BANK DED
part F text: BANK PWR

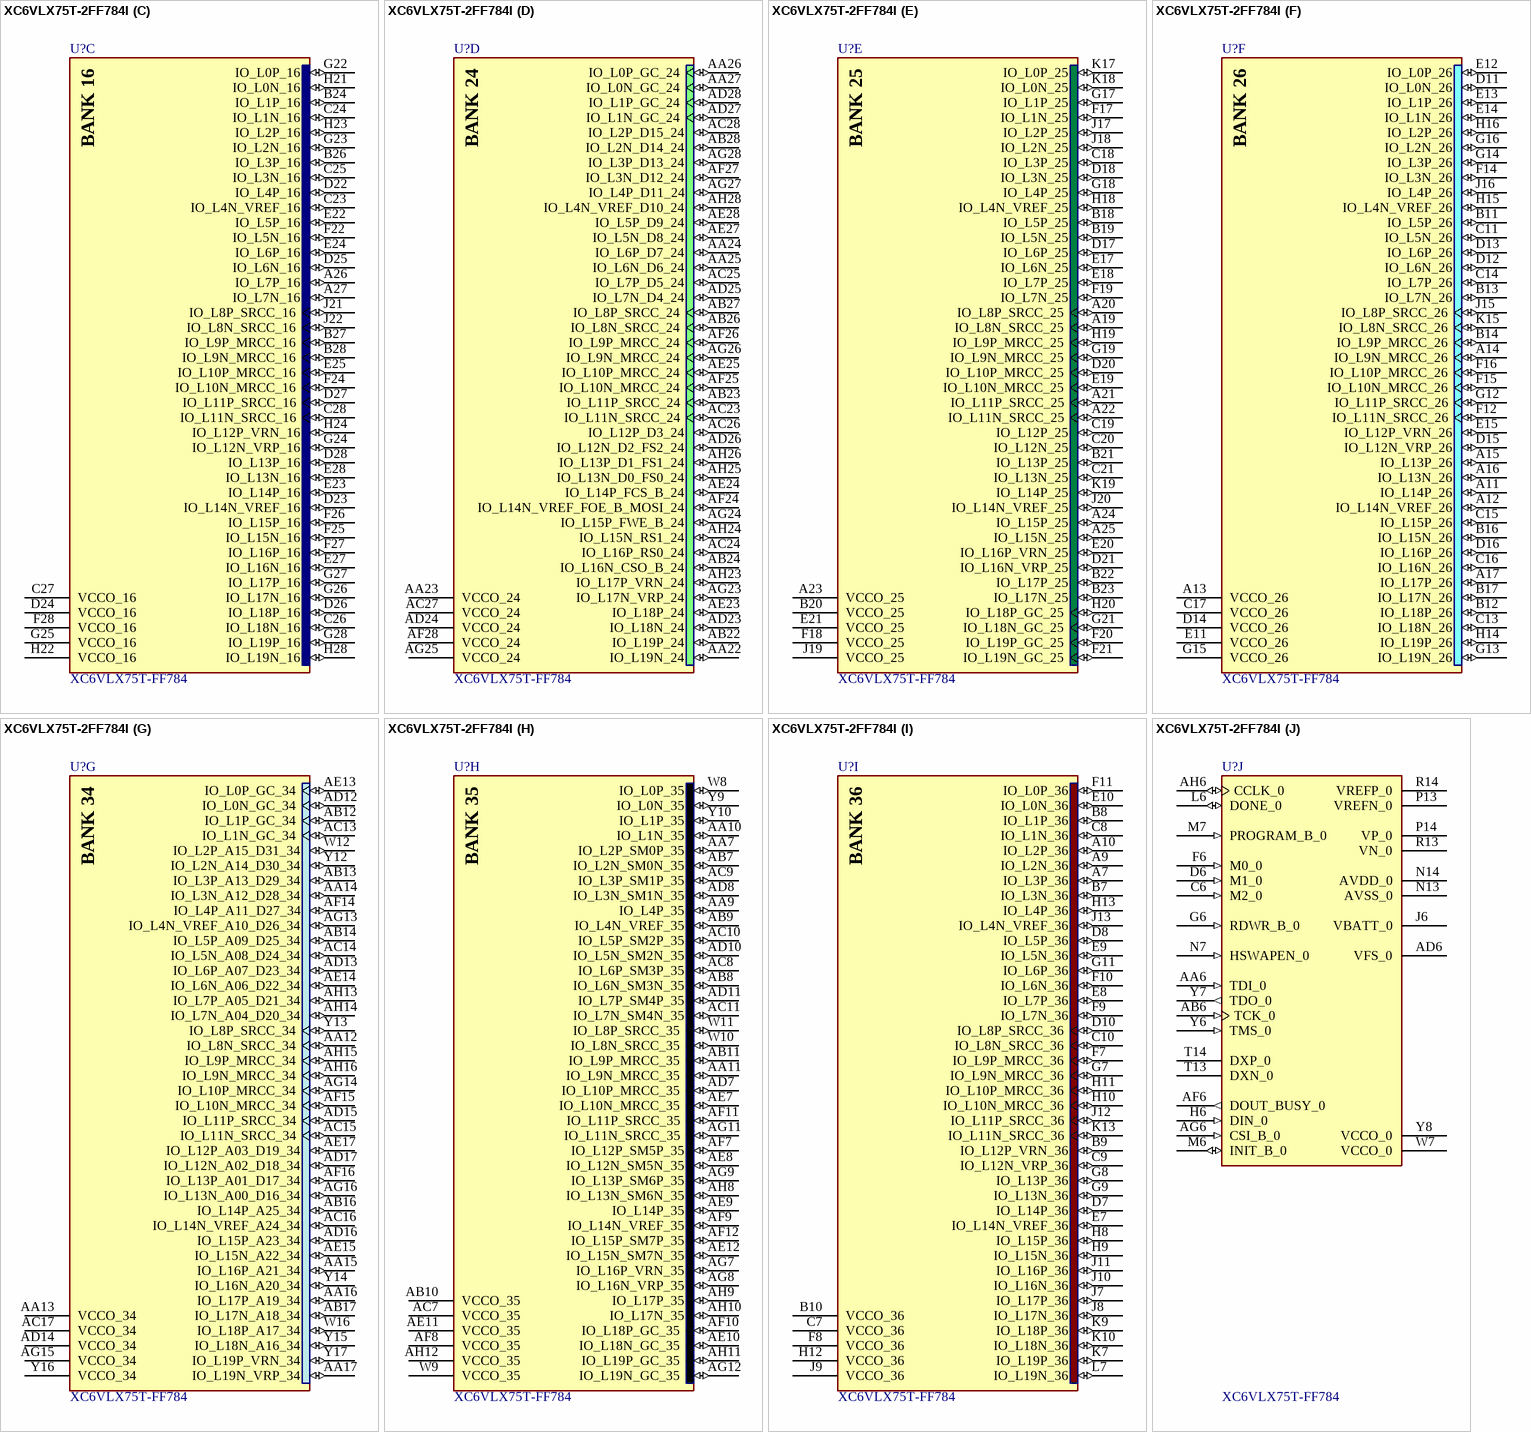
[diagram p7: symbol XC6VLX75T-2FF784I]

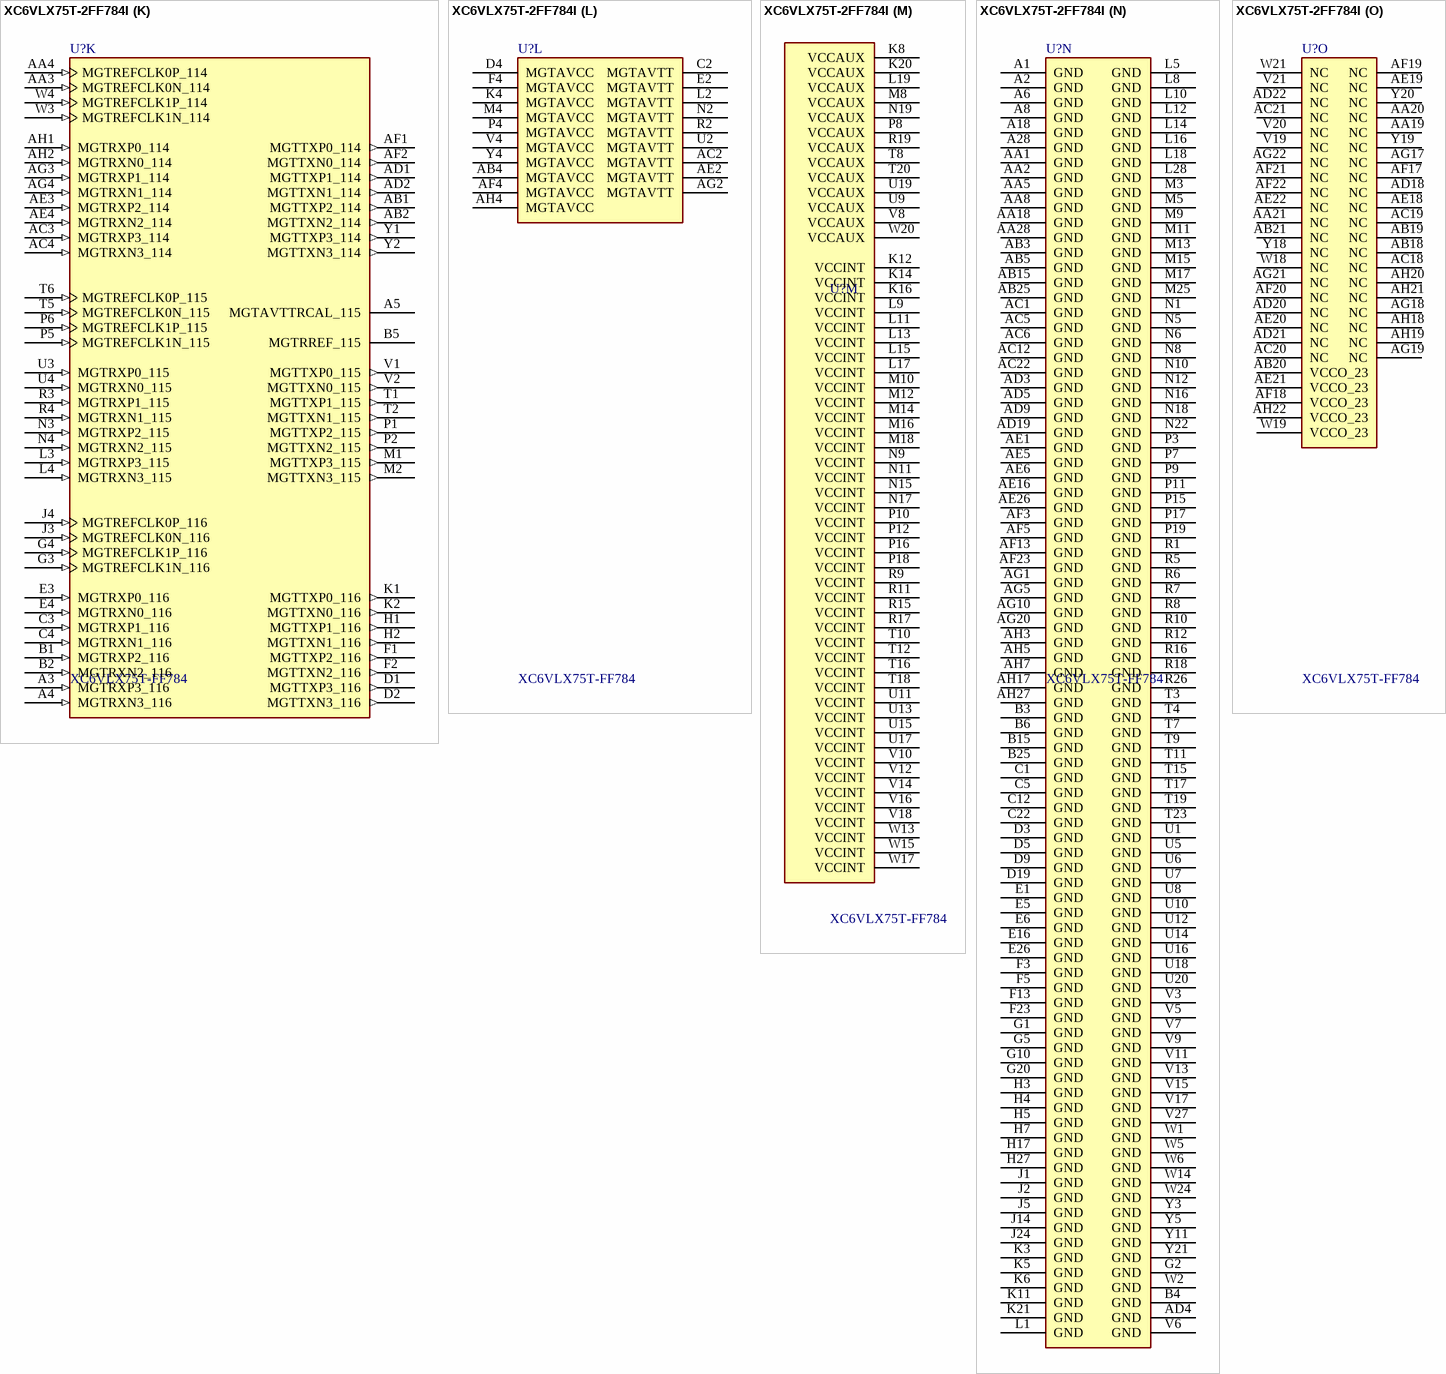
[diagram p8: symbol XC6VLX75T-2FF784I]